# Altium schematic symbol library Connectors_Old.SchLib: 239 symbols (part 2 of 4)
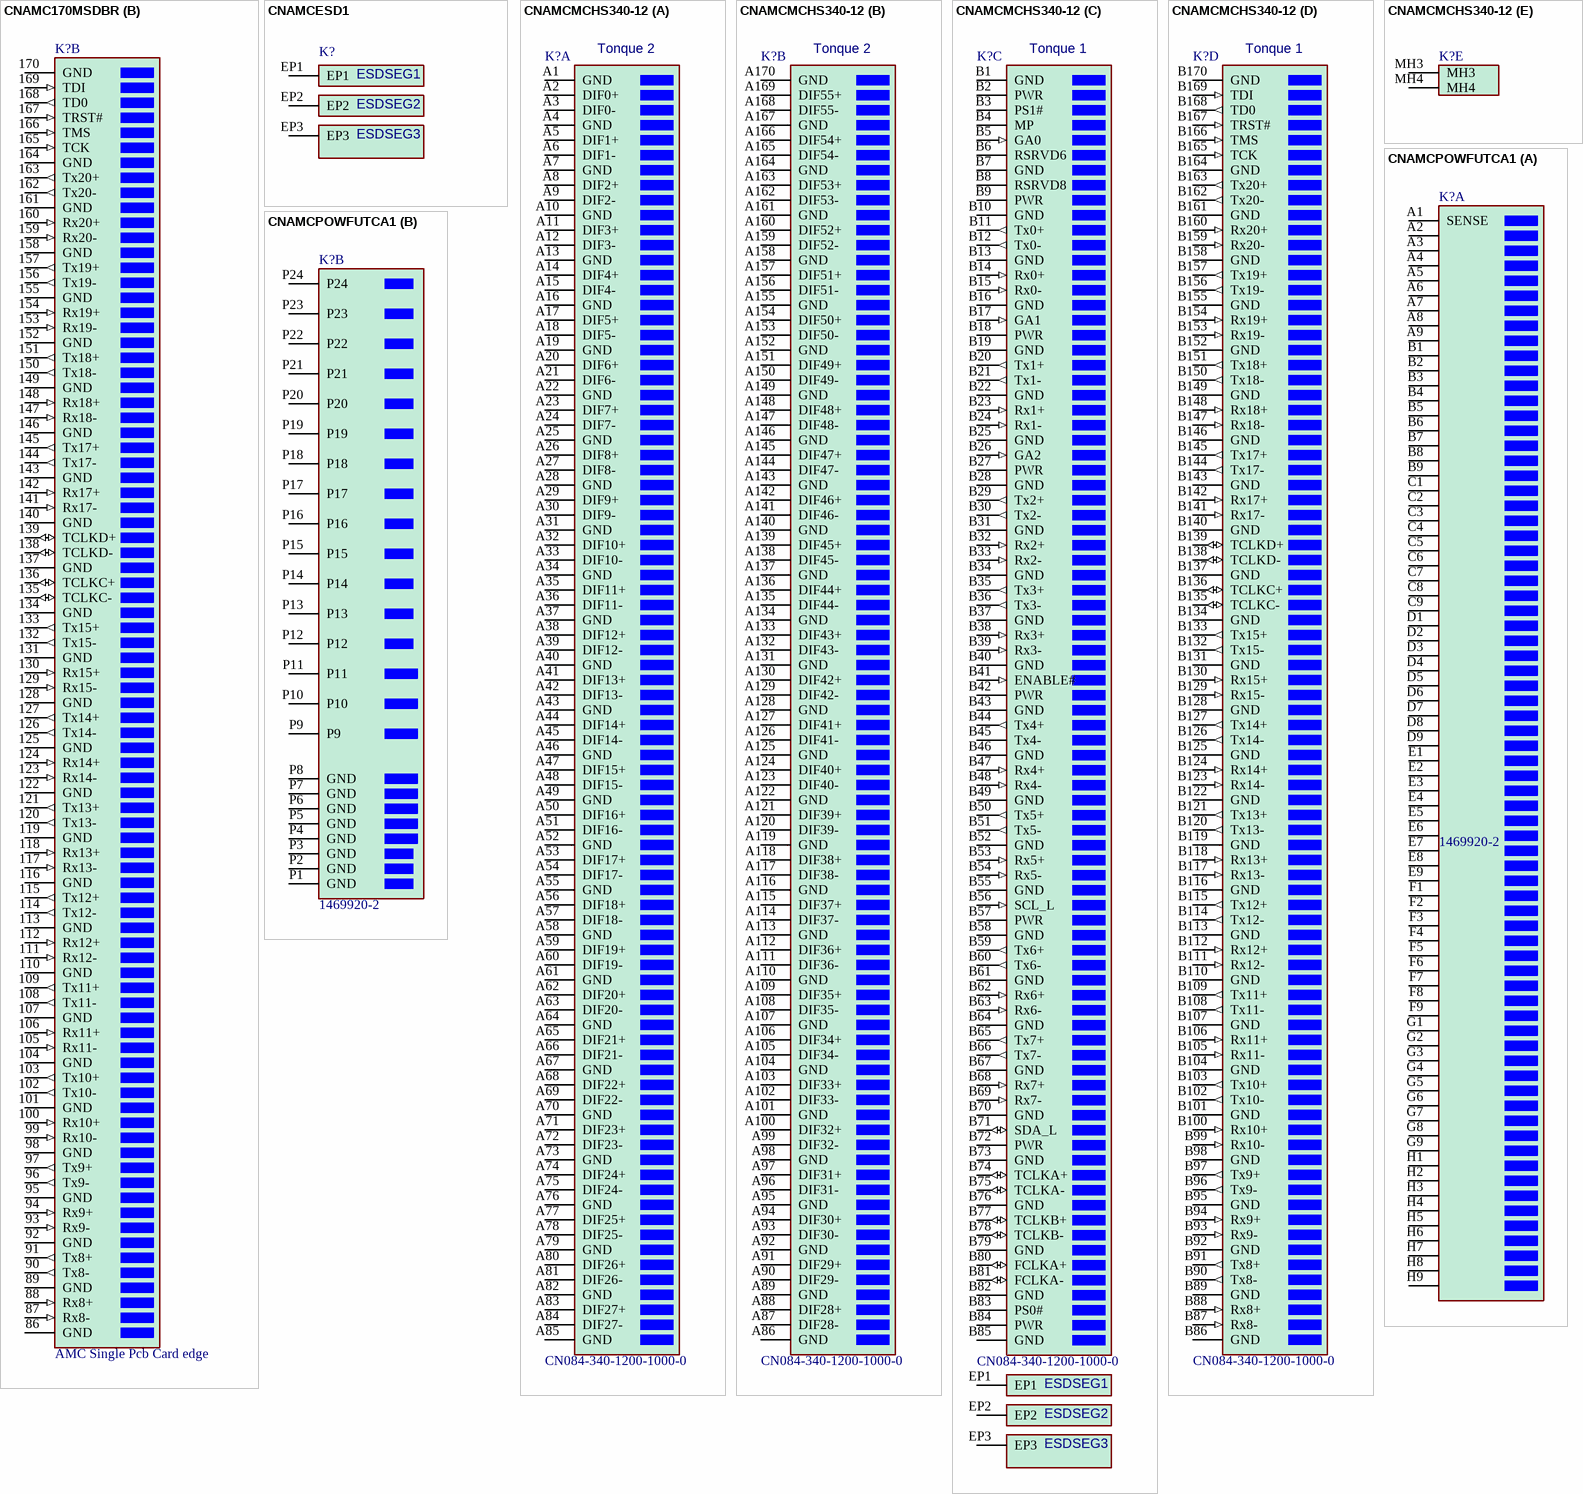
[diagram p17: symbols CNAMC170MSDBR to CNAMCPOWFUTCA1]

## CNAMC170MSDBR
designator K?, comment AMC Single Pcb Card edge  (no BOM)
AMC Daughter Board Reversed Single Card edge connector 170 pin; Price: 0
signal-integrity model Model Name (Model Description)
footprint CNAMCEDGES1DBR (AMC daughter board reversed single edge connector standard)
part A pins: 1 GND (power), 2 PWR (power) "12V", 3 PS1# "presence1", 4 MP (power) "3V3", 5 GA0 (in) "Gaddr0", 6 RSRVD6 "reserved", 7 GND (power), 8 RSRVD8 "reserved", 9 PWR (power) "12V", 10 GND (power), 11 Tx0+ (out) "out0", 12 Tx0- (out) "out0", 13 GND (power), 14 Rx0+ (in) "in0", 15 Rx0- (in) "in0", 16 GND (power), 17 GA1 (in) "Gaddr1", 18 PWR (power) "12V", 19 GND (power), 20 Tx1+ (out) "out1", 21 Tx1- (out) "out1", 22 GND (power), 23 Rx1+ (in) "in1", 24 Rx1- (in) "in1", 25 GND (power), 26 GA2 (in) "Gaddr2", 27 PWR (power) "12V", 28 GND (power), 29 Tx2+ (out) "out2", 30 Tx2- (out) "out2", 31 GND (power), 32 Rx2+ (in) "in2", 33 Rx2- (in) "in2", 34 GND (power), 35 Tx3+ (out) "out3", 36 Tx3- (out) "out3", 37 GND (power), 38 Rx3+ (in) "in3", 39 Rx3- (in) "in3", 40 GND (power), 41 ENABLE# (in) "AMC enable", 42 PWR (power) "12V", 43 GND (power), 44 Tx4+ (out) "out4", 45 T44- "out4", 46 GND (power), 47 Rx4+ (in) "in4", 48 Rx4- (in) "in4", 49 GND (power), 50 Tx5+ (out) "out5", 51 Tx5- (out) "out5", 52 GND (power), 53 Rx5+ (in) "in5", 54 Rx5- (in) "in5", 55 GND (power), 56 SCL_L (in) "IPMB clock", 57 PWR (power) "12V", 58 GND (power), 59 Tx6+ (out) "out6", 60 Tx6- (out) "out6", 61 GND (power), 62 Rx6+ (in) "in6", 63 Rx6- (in) "in6", 64 GND (power), 65 Tx7+ (out) "out7", 66 Tx7- (out) "out7", 67 GND (power), 68 Rx7+ (in) "in7", 69 Rx7- (in) "in7", 70 GND (power), 71 SDA_L (io) "IPMB data", 72 PWR (power) "12V", 73 GND (power), 74 TCLKA+ (io) "clk", 75 TCLKA- (io) "clk", 76 GND (power), 77 TCLKB+ (io) "clk", 78 TCLKB- (io) "clk", 79 GND (power), 80 FCLKA+ (io) "clk", 81 FCLKA- (io) "clk", 82 GND (power), 83 PS0# "presence0", 84 PWR (power) "12V", 85 GND (power), EP1, EP2, EP3
part B pins: 86 GND (power), 87 Rx8- (in) "in8", 88 Rx8+ (in) "in8", 89 GND (power), 90 Tx8- (out) "out8", 91 Tx8+ (out) "out8", 92 GND (power), 93 Rx9- (in) "in9", 94 Rx9+ (in) "in9", 95 GND (power), 96 Tx9- (out) "out9", 97 Tx9+ (out) "out9", 98 GND (power), 99 Rx10- (in) "in10", 100 Rx10+ (in) "in10", 101 GND (power), 102 Tx10- (out) "out10", 103 Tx10+ (out) "out10", 104 GND (power), 105 Rx11- (in) "in11", 106 Rx11+ (in) "in11", 107 GND (power), 108 Tx11- (out) "out11", 109 Tx11+ (out) "out11", 110 GND (power), 111 Rx12- (in) "in12", 112 Rx12+ (in) "in12", 113 GND (power), 114 Tx12- (out) "out12", 115 Tx12+ (out) "out12", 116 GND (power), 117 Rx13- (in) "in13", 118 Rx13+ (in) "in13", 119 GND (power), 120 Tx13- (out) "out13", 121 Tx13+ (out) "out13", 122 GND (power), 123 Rx14- (in) "in14", 124 Rx14+ (in) "in14", 125 GND (power), 126 Tx14- (out) "out14", 127 Tx14+ (out) "out14", 128 GND (power), 129 Rx15- (in) "in15", 130 Rx15+ (in) "in15", 131 GND (power), 132 Tx15- (out) "out15", 133 Tx15+ (out) "out15", 134 GND (power), 135 TCLKC- (io) "clk", 136 TCLKC+ (io) "clk", 137 GND (power), 138 TCLKD- (io) "clk", 139 TCLKD+ (io) "clk", 140 GND (power), 141 Rx17- (in) "in17", 142 Rx17+ (in) "in17", 143 GND (power), 144 Tx17- (out) "out17", 145 Tx17+ (out) "out17", 146 GND (power), 147 Rx18- (in) "in18", 148 Rx18+ (in) "in18", 149 GND (power), 150 Tx18- (out) "out18", 151 Tx18+ (out) "out18", 152 GND (power), 153 Rx19- (in) "in19", 154 Rx19+ (in) "in19", 155 GND (power), 156 Tx19- (out) "out19", 157 Tx19+ (out) "out19", 158 GND (power), 159 Rx20- (in) "in20", 160 Rx20+ (in) "in20", 161 GND (power), 162 Tx20- (out) "out20", 163 Tx20+ (out) "out20", 164 GND (power), 165 TCK (in) "in", 166 TMS (in) "in", 167 TRST# (in) "in", 168 TD0 (out) "out", 169 TDI (in) "in", 170 GND (power)
part A text: ESDSEG1; ESDSEG2; ESDSEG3

## CNAMCESD1
designator K?, comment ESD strip  (no BOM)
AMC Module ESD protection strip; Price: 0
signal-integrity model Model Name (Model Description)
footprint CNAMCESD1 (AMC ESD strip)
footprint CNAMCESDMCH1 (AMC ESD strip for MCH module)
pins: EP1, EP2, EP3, MH1 hidden
text: ESDSEG1; ESDSEG2; ESDSEG3

## CNAMCMCHS340-12
designator K?, comment CN084-340-1200-1000-0
AMC-MCH single card with plug connector 340 pin; Manufacturer: Yamaichi; Sort: 610; Tech: MECH; Manufacturer No: CN084-340-1200-1000-0; Package: Conn AMC MCH; Price: 0
signal-integrity model Model Name (Model Description)
footprint CNAMCMCHS1 (AMC single for MCH connector standard)
part A pins: A1 GND (power), A2 DIF0+, A3 DIF0-, A4 GND (power), A5 DIF1+, A6 DIF1-, A7 GND (power), A8 DIF2+, A9 DIF2-, A10 GND (power), A11 DIF3+, A12 DIF3-, A13 GND (power), A14 DIF4+, A15 DIF4-, A16 GND (power), A17 DIF5+, A18 DIF5-, A19 GND (power), A20 DIF6+, A21 DIF6-, A22 GND (power), A23 DIF7+, A24 DIF7-, A25 GND (power), A26 DIF8+, A27 DIF8-, A28 GND (power), A29 DIF9+, A30 DIF9-, A31 GND (power), A32 DIF10+, A33 DIF10-, A34 GND (power), A35 DIF11+, A36 DIF11-, A37 GND (power), A38 DIF12+, A39 DIF12-, A40 GND (power), A41 DIF13+, A42 DIF13-, A43 GND (power), A44 DIF14+, A45 DIF14-, A46 GND (power), A47 DIF15+, A48 DIF15-, A49 GND (power), A50 DIF16+, A51 DIF16-, A52 GND (power), A53 DIF17+, A54 DIF17-, A55 GND (power), A56 DIF18+, A57 DIF18-, A58 GND (power), A59 DIF19+, A60 DIF19-, A61 GND (power), A62 DIF20+, A63 DIF20-, A64 GND (power), A65 DIF21+, A66 DIF21-, A67 GND (power), A68 DIF22+, A69 DIF22-, A70 GND (power), A71 DIF23+, A72 DIF23-, A73 GND (power), A74 DIF24+, A75 DIF24-, A76 GND (power), A77 DIF25+, A78 DIF25-, A79 GND (power), A80 DIF26+, A81 DIF26-, A82 GND (power), A83 DIF27+, A84 DIF27-, A85 GND (power)
part B pins: A86 GND (power), A87 DIF28-, A88 DIF28+, A89 GND (power), A90 DIF29-, A91 DIF29+, A92 GND (power), A93 DIF30-, A94 DIF30+, A95 GND (power), A96 DIF31-, A97 DIF31+, A98 GND (power), A99 DIF32-, A100 DIF32+, A101 GND (power), A102 DIF33-, A103 DIF33+, A104 GND (power), A105 DIF34-, A106 DIF34+, A107 GND (power), A108 DIF35-, A109 DIF35+, A110 GND (power), A111 DIF36-, A112 DIF36+, A113 GND (power), A114 DIF37-, A115 DIF37+, A116 GND (power), A117 DIF38-, A118 DIF38+, A119 GND (power), A120 DIF39-, A121 DIF39+, A122 GND (power), A123 DIF40-, A124 DIF40+, A125 GND (power), A126 DIF41-, A127 DIF41+, A128 GND (power), A129 DIF42-, A130 DIF42+, A131 GND (power), A132 DIF43-, A133 DIF43+, A134 GND (power), A135 DIF44-, A136 DIF44+, A137 GND (power), A138 DIF45-, A139 DIF45+, A140 GND (power), A141 DIF46-, A142 DIF46+, A143 GND (power), A144 DIF47-, A145 DIF47+, A146 GND (power), A147 DIF48-, A148 DIF48+, A149 GND (power), A150 DIF49-, A151 DIF49+, A152 GND (power), A153 DIF50-, A154 DIF50+, A155 GND (power), A156 DIF51-, A157 DIF51+, A158 GND (power), A159 DIF52-, A160 DIF52+, A161 GND (power), A162 DIF53-, A163 DIF53+, A164 GND (power), A165 DIF54-, A166 DIF54+, A167 GND (power), A168 DIF55-, A169 DIF55+, A170 GND (power)
part C pins: B1 GND (power), B2 PWR (power) "12V", B3 PS1# "presence1", B4 MP (power) "3V3", B5 GA0 (in) "Gaddr0", B6 RSRVD6 "reserved", B7 GND (power), B8 RSRVD8 "reserved", B9 PWR (power) "12V", B10 GND (power), B11 Tx0+ (out) "out0", B12 Tx0- (out) "out0", B13 GND (power), B14 Rx0+ (in) "in0", B15 Rx0- (in) "in0", B16 GND (power), B17 GA1 (in) "Gaddr1", B18 PWR (power) "12V", B19 GND (power), B20 Tx1+ (out) "out1", B21 Tx1- (out) "out1", B22 GND (power), B23 Rx1+ (in) "in1", B24 Rx1- (in) "in1", B25 GND (power), B26 GA2 (in) "Gaddr2", B27 PWR (power) "12V", B28 GND (power), B29 Tx2+ (out) "out2", B30 Tx2- (out) "out2", B31 GND (power), B32 Rx2+ (in) "in2", B33 Rx2- (in) "in2", B34 GND (power), B35 Tx3+ (out) "out3", B36 Tx3- (out) "out3", B37 GND (power), B38 Rx3+ (in) "in3", B39 Rx3- (in) "in3", B40 GND (power), B41 ENABLE# (in) "AMC enable", B42 PWR (power) "12V", B43 GND (power), B44 Tx4+ (out) "out4", B45 Tx4- "out4", B46 GND (power), B47 Rx4+ (in) "in4", B48 Rx4- (in) "in4", B49 GND (power), B50 Tx5+ (out) "out5", B51 Tx5- (out) "out5", B52 GND (power), B53 Rx5+ (in) "in5", B54 Rx5- (in) "in5", B55 GND (power), B56 SCL_L (in) "IPMB clock", B57 PWR (power) "12V", B58 GND (power), B59 Tx6+ (out) "out6", B60 Tx6- (out) "out6", B61 GND (power), B62 Rx6+ (in) "in6", B63 Rx6- (in) "in6", B64 GND (power), B65 Tx7+ (out) "out7", B66 Tx7- (out) "out7", B67 GND (power), B68 Rx7+ (in) "in7", B69 Rx7- (in) "in7", B70 GND (power), B71 SDA_L (io) "IPMB data", B72 PWR (power) "12V", B73 GND (power), B74 TCLKA+ (io) "clk", B75 TCLKA- (io) "clk", B76 GND (power), B77 TCLKB+ (io) "clk", B78 TCLKB- (io) "clk", B79 GND (power), B80 FCLKA+ (io) "clk", B81 FCLKA- (io) "clk", B82 GND (power), B83 PS0# "presence0", B84 PWR (power) "12V", B85 GND (power), EP1, EP2, EP3
part D pins: B86 GND (power), B87 Rx8- (in) "in8", B88 Rx8+ (in) "in8", B89 GND (power), B90 Tx8- (out) "out8", B91 Tx8+ (out) "out8", B92 GND (power), B93 Rx9- (in) "in9", B94 Rx9+ (in) "in9", B95 GND (power), B96 Tx9- (out) "out9", B97 Tx9+ (out) "out9", B98 GND (power), B99 Rx10- (in) "in10", B100 Rx10+ (in) "in10", B101 GND (power), B102 Tx10- (out) "out10", B103 Tx10+ (out) "out10", B104 GND (power), B105 Rx11- (in) "in11", B106 Rx11+ (in) "in11", B107 GND (power), B108 Tx11- (out) "out11", B109 Tx11+ (out) "out11", B110 GND (power), B111 Rx12- (in) "in12", B112 Rx12+ (in) "in12", B113 GND (power), B114 Tx12- (out) "out12", B115 Tx12+ (out) "out12", B116 GND (power), B117 Rx13- (in) "in13", B118 Rx13+ (in) "in13", B119 GND (power), B120 Tx13- (out) "out13", B121 Tx13+ (out) "out13", B122 GND (power), B123 Rx14- (in) "in14", B124 Rx14+ (in) "in14", B125 GND (power), B126 Tx14- (out) "out14", B127 Tx14+ (out) "out14", B128 GND (power), B129 Rx15- (in) "in15", B130 Rx15+ (in) "in15", B131 GND (power), B132 Tx15- (out) "out15", B133 Tx15+ (out) "out15", B134 GND (power), B135 TCLKC- (io) "clk", B136 TCLKC+ (io) "clk", B137 GND (power), B138 TCLKD- (io) "clk", B139 TCLKD+ (io) "clk", B140 GND (power), B141 Rx17- (in) "in17", B142 Rx17+ (in) "in17", B143 GND (power), B144 Tx17- (out) "out17", B145 Tx17+ (out) "out17", B146 GND (power), B147 Rx18- (in) "in18", B148 Rx18+ (in) "in18", B149 GND (power), B150 Tx18- (out) "out18", B151 Tx18+ (out) "out18", B152 GND (power), B153 Rx19- (in) "in19", B154 Rx19+ (in) "in19", B155 GND (power), B156 Tx19- (out) "out19", B157 Tx19+ (out) "out19", B158 GND (power), B159 Rx20- (in) "in20", B160 Rx20+ (in) "in20", B161 GND (power), B162 Tx20- (out) "out20", B163 Tx20+ (out) "out20", B164 GND (power), B165 TCK (in) "in", B166 TMS (in) "in", B167 TRST# (in) "in", B168 TD0 (out) "out", B169 TDI (in) "in", B170 GND (power)
part E pins: MH3, MH4
part A text: Tonque 2
part B text: Tonque 2
part C text: Tonque 1; ESDSEG1; ESDSEG2; ESDSEG3
part D text: Tonque 1

## CNAMCPOWFUTCA1
designator K?, comment 1469920-2
AMC uTCA power connector for backplane; Manufacturer: Tyco, Farnell; Manufacturer No: 1469920-2, 1375136; Comment2: 24power pin, 72signal pin; Sort: 610; Tech: PFIT; Package: Conn. Power UTCA; Price: 12
signal-integrity model Model Name (Model Description)
footprint CNUTCAPOWF1 (uTCA Power connector female for backplane)
part A pins: A1 SENSE, A2, A3, A4, A5, A6, A7, A8, A9, B1, B2, B3, B4 (power), B5, B6, B7 (power), B8, B9, C1 (power), C2, C3, C4 (power), C5, C6, C7 (power), C8, C9, D1, D2, D3, D4, D5, D6, D7, D8, D9, E1, E2, E3, E4, E5, E6, E7, E8, E9, F1, F2, F3, F4, F5, F6, F7, F8, F9, G1, G2, G3, G4, G5, G6, G7, G8, G9, H1, H2, H3, H4, H5, H6, H7, H8, H9
part B pins: P1 GND (power), P2 GND (power), P3 GND (power), P4 GND (power), P5 GND (power), P6 GND (power), P7 GND (power), P8 GND (power), P9 (power), P10 (power), P11 (power), P12 (power), P13 (power), P14 (power), P15 (power), P16 (power), P17 (power), P18 (power), P19 (power), P20 (power), P21 (power), P22 (power), P23 (power), P24 (power)

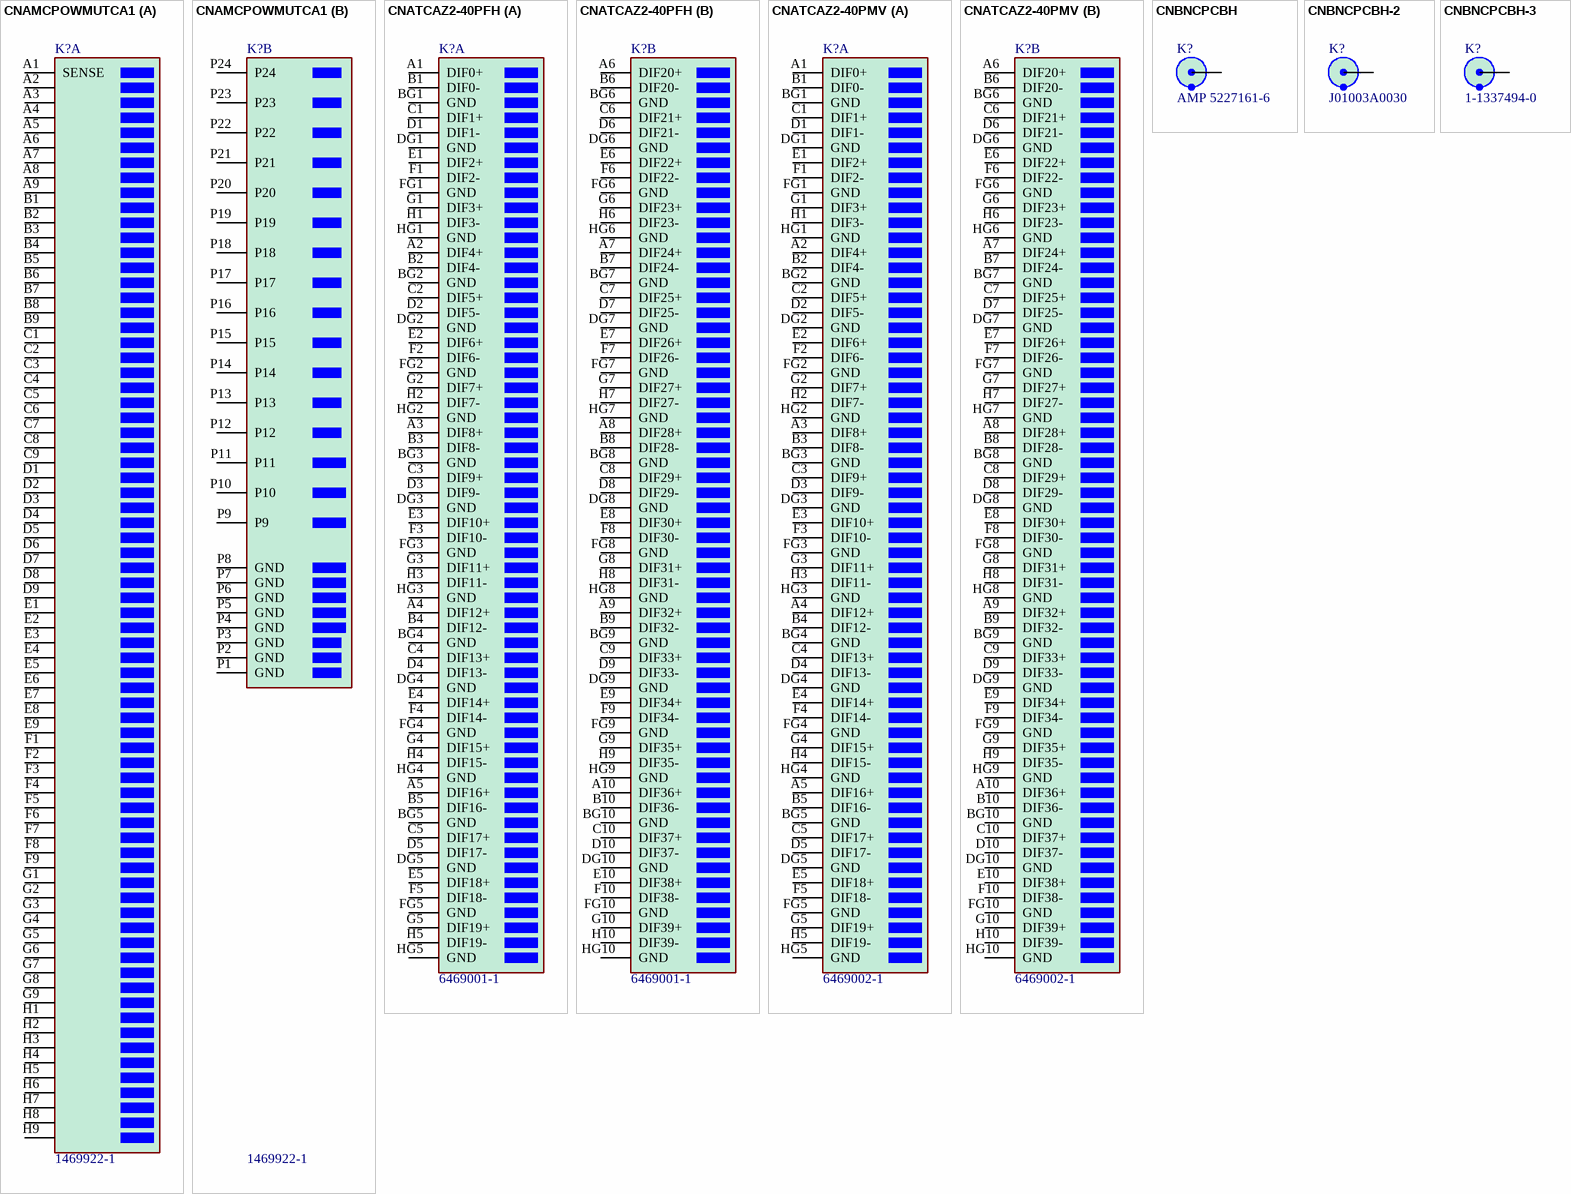
[diagram p7: symbols CNAMCPOWMUTCA1 to CNBNCPCBH-3]

## CNAMCPOWMUTCA1
designator K?, comment 1469922-1
AMC uTCA power connector for daughterboard; Manufacturer: Tyco, Farnell; Manufacturer No: 1469922-1, 1527882; Comment2: 24power pin, 72signal pin; Sort: 610; Tech: PFIT; Package: Conn Power UTCA; Price: 15
signal-integrity model Model Name (Model Description)
footprint CNUTCAPOWM1 (uTCA Power connector male for board)
part A pins: A1 SENSE, A2, A3, A4, A5, A6, A7, A8, A9, B1, B2, B3, B4, B5, B6, B7, B8, B9, C1, C2, C3, C4, C5, C6, C7, C8, C9, D1, D2, D3, D4, D5, D6, D7, D8, D9, E1, E2, E3, E4, E5, E6, E7, E8, E9, F1, F2, F3, F4, F5, F6, F7, F8, F9, G1, G2, G3, G4, G5, G6, G7, G8, G9, H1, H2, H3, H4, H5, H6, H7, H8, H9
part B pins: P1 GND (power), P2 GND (power), P3 GND (power), P4 GND (power), P5 GND (power), P6 GND (power), P7 GND (power), P8 GND (power), P9 (power), P10 (power), P11 (power), P12 (power), P13 (power), P14 (power), P15 (power), P16 (power), P17 (power), P18 (power), P19 (power), P20 (power), P21 (power), P22 (power), P23 (power), P24 (power)

## CNATCAZ2-40PFH
designator K?, comment 6469001-1
HM-Zd female horizontal 40 shielded pairs R2.5mm; Manufacturer: Tyco, Farnell; Manufacturer No: 6469001-1, 9636714; Sort: 610; Tech: PFIT; Package: Conn. 40pairs PF; Price: 0
signal-integrity model Model Name (Model Description)
footprint CNATCAZ2-40F (ATCA Zone 2 40 shielded pairs female horizontal daughterboard)
part A pins: A1 DIF0+, A2 DIF4+, A3 DIF8+, A4 DIF12+, A5 DIF16+, B1 DIF0-, B2 DIF4-, B3 DIF8-, B4 DIF12-, B5 DIF16-, BG1 GND (power), BG2 GND (power), BG3 GND (power), BG4 GND (power), BG5 GND (power), C1 DIF1+, C2 DIF5+, C3 DIF9+, C4 DIF13+, C5 DIF17+, D1 DIF1-, D2 DIF5-, D3 DIF9-, D4 DIF13-, D5 DIF17-, DG1 GND (power), DG2 GND (power), DG3 GND (power), DG4 GND (power), DG5 GND (power), E1 DIF2+, E2 DIF6+, E3 DIF10+, E4 DIF14+, E5 DIF18+, F1 DIF2-, F2 DIF6-, F3 DIF10-, F4 DIF14-, F5 DIF18-, FG1 GND (power), FG2 GND (power), FG3 GND (power), FG4 GND (power), FG5 GND (power), G1 DIF3+, G2 DIF7+, G3 DIF11+, G4 DIF15+, G5 DIF19+, H1 DIF3-, H2 DIF7-, H3 DIF11-, H4 DIF15-, H5 DIF19-, HG1 GND (power), HG2 GND (power), HG3 GND (power), HG4 GND (power), HG5 GND (power)
part B pins: A6 DIF20+, A7 DIF24+, A8 DIF28+, A9 DIF32+, A10 DIF36+, B6 DIF20-, B7 DIF24-, B8 DIF28-, B9 DIF32-, B10 DIF36-, BG6 GND (power), BG7 GND (power), BG8 GND (power), BG9 GND (power), BG10 GND (power), C6 DIF21+, C7 DIF25+, C8 DIF29+, C9 DIF33+, C10 DIF37+, D6 DIF21-, D7 DIF25-, D8 DIF29-, D9 DIF33-, D10 DIF37-, DG6 GND (power), DG7 GND (power), DG8 GND (power), DG9 GND (power), DG10 GND (power), E6 DIF22+, E7 DIF26+, E8 DIF30+, E9 DIF34+, E10 DIF38+, F6 DIF22-, F7 DIF26-, F8 DIF30-, F9 DIF34-, F10 DIF38-, FG6 GND (power), FG7 GND (power), FG8 GND (power), FG9 GND (power), FG10 GND (power), G6 DIF23+, G7 DIF27+, G8 DIF31+, G9 DIF35+, G10 DIF39+, H6 DIF23-, H7 DIF27-, H8 DIF31-, H9 DIF35-, H10 DIF39-, HG6 GND (power), HG7 GND (power), HG8 GND (power), HG9 GND (power), HG10 GND (power)

## CNATCAZ2-40PMV
designator K?, comment 6469002-1
HM-Zd male vertical 40 shielded pairs R2.5mm; Manufacturer: Tyco, Farnell; Manufacturer No: 6469002-1, 9636730; Sort: 610; Tech: PFIT; Package: Conn. 40pairs PF; Price: 0
signal-integrity model Model Name (Model Description)
footprint CNATCAZ2-40M (ATCA Zone 2 40 shielded pairs male vertical backplane)
part A pins: A1 DIF0+, A2 DIF4+, A3 DIF8+, A4 DIF12+, A5 DIF16+, B1 DIF0-, B2 DIF4-, B3 DIF8-, B4 DIF12-, B5 DIF16-, BG1 GND (power), BG2 GND (power), BG3 GND (power), BG4 GND (power), BG5 GND (power), C1 DIF1+, C2 DIF5+, C3 DIF9+, C4 DIF13+, C5 DIF17+, D1 DIF1-, D2 DIF5-, D3 DIF9-, D4 DIF13-, D5 DIF17-, DG1 GND (power), DG2 GND (power), DG3 GND (power), DG4 GND (power), DG5 GND (power), E1 DIF2+, E2 DIF6+, E3 DIF10+, E4 DIF14+, E5 DIF18+, F1 DIF2-, F2 DIF6-, F3 DIF10-, F4 DIF14-, F5 DIF18-, FG1 GND (power), FG2 GND (power), FG3 GND (power), FG4 GND (power), FG5 GND (power), G1 DIF3+, G2 DIF7+, G3 DIF11+, G4 DIF15+, G5 DIF19+, H1 DIF3-, H2 DIF7-, H3 DIF11-, H4 DIF15-, H5 DIF19-, HG1 GND (power), HG2 GND (power), HG3 GND (power), HG4 GND (power), HG5 GND (power)
part B pins: A6 DIF20+, A7 DIF24+, A8 DIF28+, A9 DIF32+, A10 DIF36+, B6 DIF20-, B7 DIF24-, B8 DIF28-, B9 DIF32-, B10 DIF36-, BG6 GND (power), BG7 GND (power), BG8 GND (power), BG9 GND (power), BG10 GND (power), C6 DIF21+, C7 DIF25+, C8 DIF29+, C9 DIF33+, C10 DIF37+, D6 DIF21-, D7 DIF25-, D8 DIF29-, D9 DIF33-, D10 DIF37-, DG6 GND (power), DG7 GND (power), DG8 GND (power), DG9 GND (power), DG10 GND (power), E6 DIF22+, E7 DIF26+, E8 DIF30+, E9 DIF34+, E10 DIF38+, F6 DIF22-, F7 DIF26-, F8 DIF30-, F9 DIF34-, F10 DIF38-, FG6 GND (power), FG7 GND (power), FG8 GND (power), FG9 GND (power), FG10 GND (power), G6 DIF23+, G7 DIF27+, G8 DIF31+, G9 DIF35+, G10 DIF39+, H6 DIF23-, H7 DIF27-, H8 DIF31-, H9 DIF35-, H10 DIF39-, HG6 GND (power), HG7 GND (power), HG8 GND (power), HG9 GND (power), HG10 GND (power)

## CNBNCPCBH
designator K?, comment AMP 5227161-6
BNC 90deg PCB; Manufacturer: Tyco AMP; Sort: 610; Tech: THDW; Manufacturer No: 5227161-6; Price: 0
signal-integrity model Model Name (Model Description)
footprint CNBNCPCBH1 (TYCO AMP BNC PCB horizontal)
pins: 1, 2 (in)

## CNBNCPCBH-2
designator K?, comment J01003A0030
BNC 90deg PCB; Manufacturer: Telegartner; Sort: 610; Tech: THDW; Manufacturer No: J01003A0030; Price: 0
signal-integrity model Model Name (Model Description)
footprint CNBNCPCBH2 (Telegartner BNC PCB horizontal J01003A0030)
pins: 1, 2 (in)

## CNBNCPCBH-3
designator K?, comment 1-1337494-0
BNC 90deg PCB; Manufacturer: Tyco, Farnell; Manufacturer No: 1-1337494-0, 1020958; Sort: 610; Tech: THDW; Package: CN BNC pcb horiz; Price: 0
signal-integrity model Model Name (Model Description)
footprint CNBNCPCBH3 (Telegartner BNC PCB horizontal J01003A0030)
pins: 1, 2 (in)

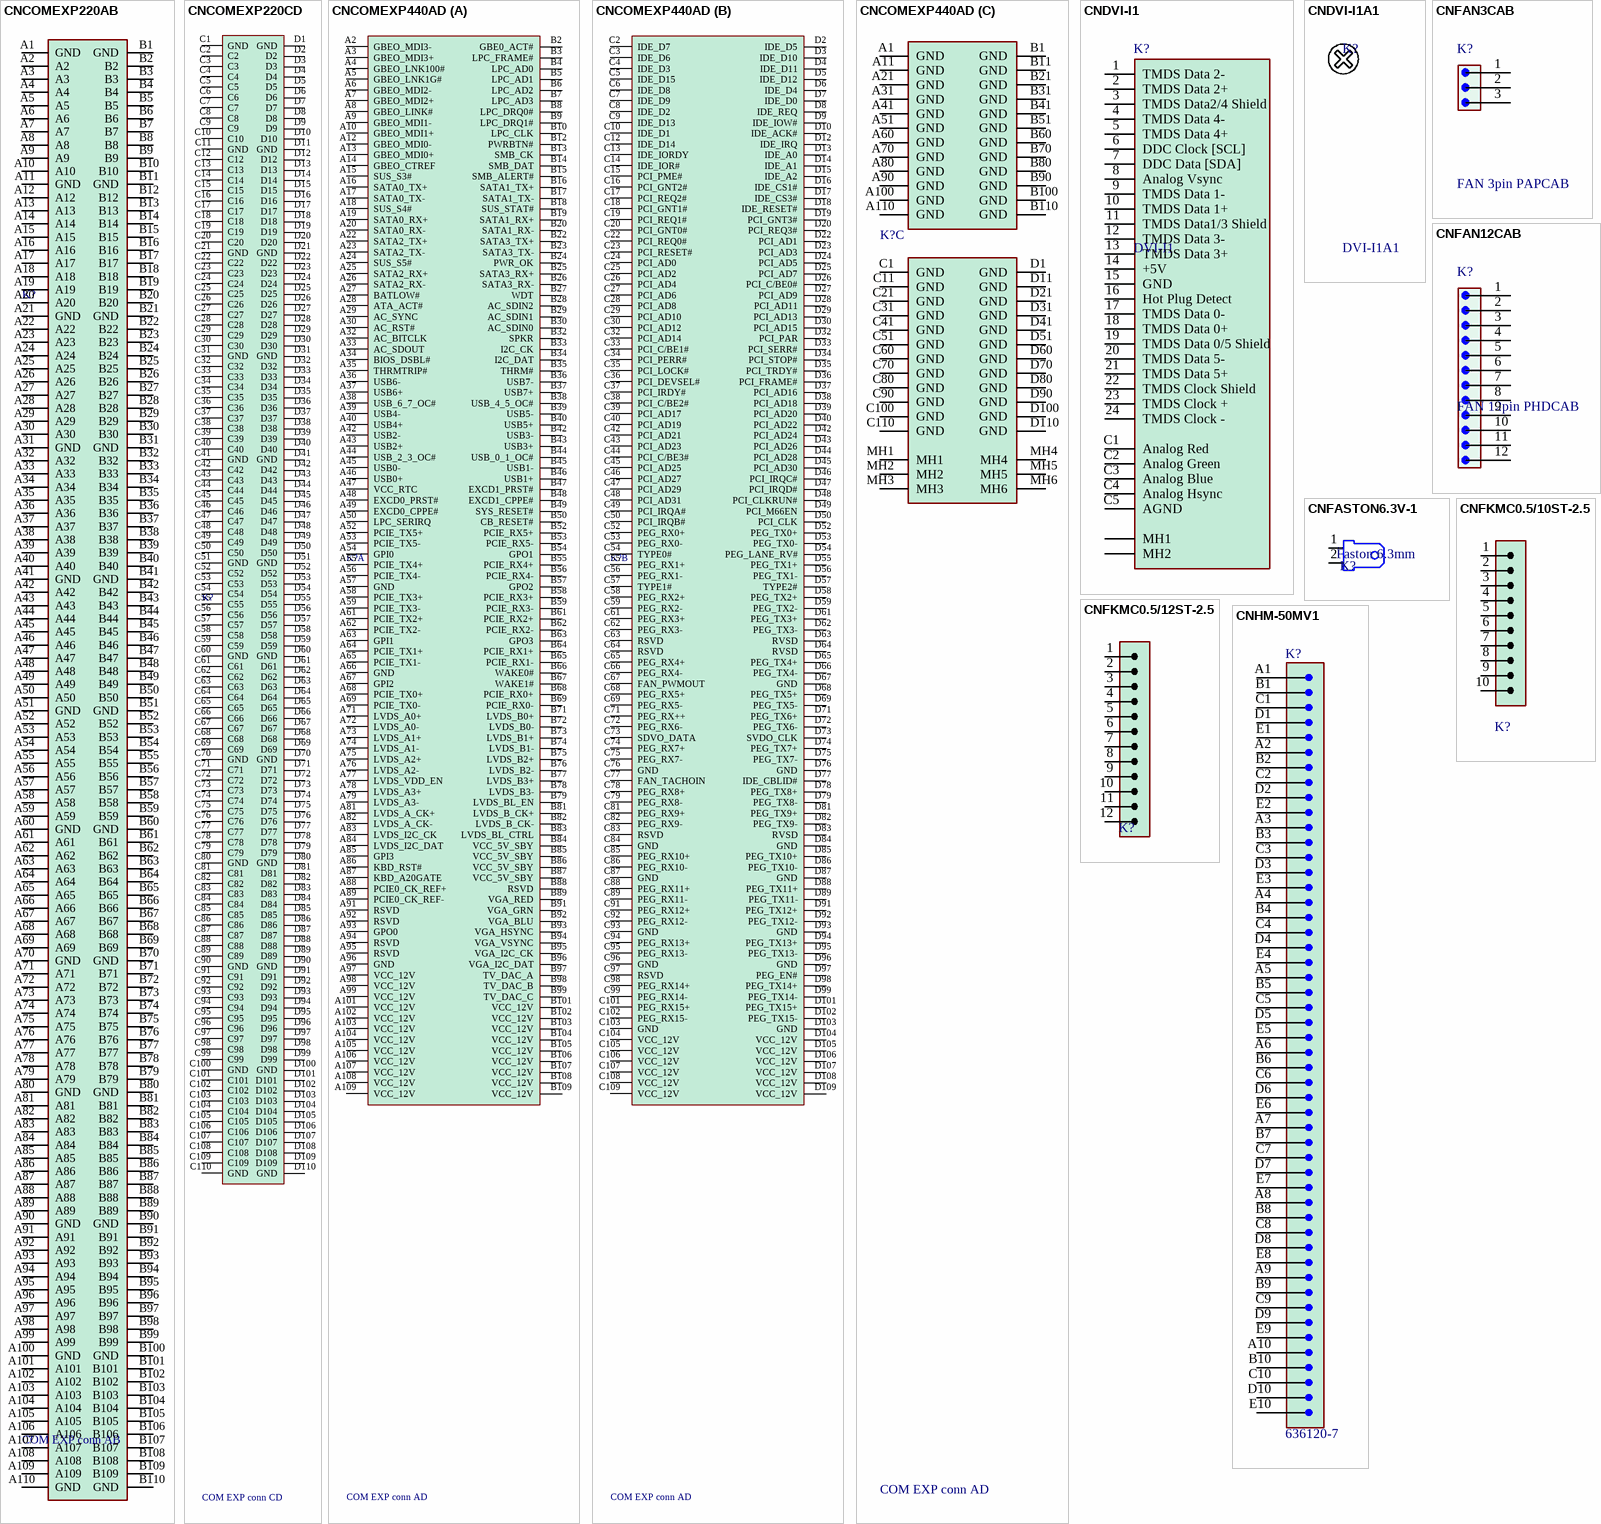
[diagram p8: symbols CNCOMEXP220AB to CNHM-50MV1]

## CNCOMEXP220AB
designator K?, comment COM EXP conn AB
COM express connector 220 pin AB; Manufacturer: Tyco; Manufacturer No: 3-1827253-6; Price: 0
signal-integrity model Model Name (Model Description)
pins: A1 GND, A2, A3, A4, A5, A6, A7, A8, A9, A10, A11 GND, A12, A13, A14, A15, A16, A17, A18, A19, A20, A21 GND, A22, A23, A24, A25, A26, A27, A28, A29, A30, A31 GND, A32, A33, A34, A35, A36, A37, A38, A39, A40, A41 GND, A42, A43, A44, A45, A46, A47, A48, A49, A50, A51 GND, A52, A53, A54, A55, A56, A57, A58, A59, A60 GND, A61, A62, A63, A64, A65, A66, A67, A68, A69, A70 GND, A71, A72, A73, A74, A75, A76, A77, A78, A79, A80 GND, A81, A82, A83, A84, A85, A86, A87, A88, A89, A90 GND, A91, A92, A93, A94, A95, A96, A97, A98, A99, A100 GND, A101, A102, A103, A104, A105, A106, A107, A108, A109, A110 GND, B1 GND, B2, B3, B4, B5, B6, B7, B8, B9, B10, B11 GND, B12, B13, B14, B15, B16, B17, B18, B19, B20, B21 GND, B22, B23, B24, B25, B26, B27, B28, B29, B30, B31 GND, B32, B33, B34, B35, B36, B37, B38, B39, B40, B41 GND, B42, B43, B44, B45, B46, B47, B48, B49, B50, B51 GND, B52, B53, B54, B55, B56, B57, B58, B59, B60 GND, B61, B62, B63, B64, B65, B66, B67, B68, B69, B70 GND, B71, B72, B73, B74, B75, B76, B77, B78, B79, B80 GND, B81, B82, B83, B84, B85, B86, B87, B88, B89, B90 GND, B91, B92, B93, B94, B95, B96, B97, B98, B99, B100 GND, B101, B102, B103, B104, B105, B106, B107, B108, B109, B110 GND

## CNCOMEXP220CD
designator K?, comment COM EXP conn CD
COM express connector 220 pin CD; Manufacturer: Tyco; Manufacturer No: 3-1827253-6; Price: 0
signal-integrity model Model Name (Model Description)
pins: C1 GND, C2, C3, C4, C5, C6, C7, C8, C9, C10, C11 GND, C12, C13, C14, C15, C16, C17, C18, C19, C20, C21 GND, C22, C23, C24, C25, C26, C27, C28, C29, C30, C31 GND, C32, C33, C34, C35, C36, C37, C38, C39, C40, C41 GND, C42, C43, C44, C45, C46, C47, C48, C49, C50, C51 GND, C52, C53, C54, C55, C56, C57, C58, C59, C60 GND, C61, C62, C63, C64, C65, C66, C67, C68, C69, C70 GND, C71, C72, C73, C74, C75, C76, C77, C78, C79, C80 GND, C81, C82, C83, C84, C85, C86, C87, C88, C89, C90 GND, C91, C92, C93, C94, C95, C96, C97, C98, C99, C100 GND, C101, C102, C103, C104, C105, C106, C107, C108, C109, C110 GND, D1 GND, D2, D3, D4, D5, D6, D7, D8, D9, D10, D11 GND, D12, D13, D14, D15, D16, D17, D18, D19, D20, D21 GND, D22, D23, D24, D25, D26, D27, D28, D29, D30, D31 GND, D32, D33, D34, D35, D36, D37, D38, D39, D40, D41 GND, D42, D43, D44, D45, D46, D47, D48, D49, D50, D51 GND, D52, D53, D54, D55, D56, D57, D58, D59, D60 GND, D61, D62, D63, D64, D65, D66, D67, D68, D69, D70 GND, D71, D72, D73, D74, D75, D76, D77, D78, D79, D80 GND, D81, D82, D83, D84, D85, D86, D87, D88, D89, D90 GND, D91, D92, D93, D94, D95, D96, D97, D98, D99, D100 GND, D101, D102, D103, D104, D105, D106, D107, D108, D109, D110 GND

## CNCOMEXP440AD
designator K?, comment COM EXP conn AD
COM express connector 2x 220 pin A-D Congatec; Manufacturer: Tyco; Manufacturer No: 3-5353652-6; Package: Conn dual 220pin; Price: 0
signal-integrity model Model Name (Model Description)
footprint CNCOMEXP4408MM (Connector Com Express 2x220pin R0.5mm 8mm height)
part A pins: A2 GBEO_MDI3-, A3 GBEO_MDI3+, A4 GBEO_LNK100#, A5 GBEO_LNK1G#, A6 GBEO_MDI2-, A7 GBEO_MDI2+, A8 GBEO_LINK#, A9 GBEO_MDI1-, A10 GBEO_MDI1+, A12 GBEO_MDI0-, A13 GBEO_MDI0+, A14 GBEO_CTREF, A15 SUS_S3#, A16 SATA0_TX+, A17 SATA0_TX-, A18 SUS_S4#, A19 SATA0_RX+, A20 SATA0_RX-, A22 SATA2_TX+, A23 SATA2_TX-, A24 SUS_S5#, A25 SATA2_RX+, A26 SATA2_RX-, A27 BATLOW#, A28 ATA_ACT#, A29 AC_SYNC, A30 AC_RST#, A32 AC_BITCLK, A33 AC_SDOUT, A34 BIOS_DSBL#, A35 THRMTRIP#, A36 USB6-, A37 USB6+, A38 USB_6_7_OC#, A39 USB4-, A40 USB4+, A42 USB2-, A43 USB2+, A44 USB_2_3_OC#, A45 USB0-, A46 USB0+, A47 VCC_RTC, A48 EXCD0_PRST#, A49 EXCD0_CPPE#, A50 LPC_SERIRQ, A52 PCIE_TX5+, A53 PCIE_TX5-, A54 GPI0, A55 PCIE_TX4+, A56 PCIE_TX4-, A57 GND, A58 PCIE_TX3+, A59 PCIE_TX3-, A61 PCIE_TX2+, A62 PCIE_TX2-, A63 GPI1, A64 PCIE_TX1+, A65 PCIE_TX1-, A66 GND, A67 GPI2, A68 PCIE_TX0+, A69 PCIE_TX0-, A71 LVDS_A0+, A72 LVDS_A0-, A73 LVDS_A1+, A74 LVDS_A1-, A75 LVDS_A2+, A76 LVDS_A2-, A77 LVDS_VDD_EN, A78 LVDS_A3+, A79 LVDS_A3-, A81 LVDS_A_CK+, A82 LVDS_A_CK-, A83 LVDS_I2C_CK, A84 LVDS_I2C_DAT, A85 GPI3, A86 KBD_RST#, A87 KBD_A20GATE, A88 PCIE0_CK_REF+, A89 PCIE0_CK_REF-, A91 RSVD, A92 RSVD, A93 GPO0, A94 RSVD, A95 RSVD, A96 GND, A97 VCC_12V, A98 VCC_12V, A99 VCC_12V, A101 VCC_12V, A102 VCC_12V, A103 VCC_12V, A104 VCC_12V, A105 VCC_12V, A106 VCC_12V, A107 VCC_12V, A108 VCC_12V, A109 VCC_12V, B2 GBE0_ACT#, B3 LPC_FRAME#, B4 LPC_AD0, B5 LPC_AD1, B6 LPC_AD2, B7 LPC_AD3, B8 LPC_DRQ0#, B9 LPC_DRQ1#, B10 LPC_CLK, B12 PWRBTN#, B13 SMB_CK, B14 SMB_DAT, B15 SMB_ALERT#, B16 SATA1_TX+, B17 SATA1_TX-, B18 SUS_STAT#, B19 SATA1_RX+, B20 SATA1_RX-, B22 SATA3_TX+, B23 SATA3_TX-, B24 PWR_OK, B25 SATA3_RX+, B26 SATA3_RX-, B27 WDT, B28 AC_SDIN2, B29 AC_SDIN1, B30 AC_SDIN0, B32 SPKR, B33 I2C_CK, B34 I2C_DAT, B35 THRM#, B36 USB7-, B37 USB7+, B38 USB_4_5_OC#, B39 USB5-, B40 USB5+, B42 USB3-, B43 USB3+, B44 USB_0_1_OC#, B45 USB1-, B46 USB1+, B47 EXCD1_PRST#, B48 EXCD1_CPPE#, B49 SYS_RESET#, B50 CB_RESET#, B52 PCIE_RX5+, B53 PCIE_RX5-, B54 GPO1, B55 PCIE_RX4+, B56 PCIE_RX4-, B57 GPO2, B58 PCIE_RX3+, B59 PCIE_RX3-, B61 PCIE_RX2+, B62 PCIE_RX2-, B63 GPO3, B64 PCIE_RX1+, B65 PCIE_RX1-, B66 WAKE0#, B67 WAKE1#, B68 PCIE_RX0+, B69 PCIE_RX0-, B71 LVDS_B0+, B72 LVDS_B0-, B73 LVDS_B1+, B74 LVDS_B1-, B75 LVDS_B2+, B76 LVDS_B2-, B77 LVDS_B3+, B78 LVDS_B3-, B79 LVDS_BL_EN, B81 LVDS_B_CK+, B82 LVDS_B_CK-, B83 LVDS_BL_CTRL, B84 VCC_5V_SBY, B85 VCC_5V_SBY, B86 VCC_5V_SBY, B87 VCC_5V_SBY, B88 RSVD, B89 VGA_RED, B91 VGA_GRN, B92 VGA_BLU, B93 VGA_HSYNC, B94 VGA_VSYNC, B95 VGA_I2C_CK, B96 VGA_I2C_DAT, B97 TV_DAC_A, B98 TV_DAC_B, B99 TV_DAC_C, B101 VCC_12V, B102 VCC_12V, B103 VCC_12V, B104 VCC_12V, B105 VCC_12V, B106 VCC_12V, B107 VCC_12V, B108 VCC_12V, B109 VCC_12V
part B pins: C2 IDE_D7, C3 IDE_D6, C4 IDE_D3, C5 IDE_D15, C6 IDE_D8, C7 IDE_D9, C8 IDE_D2, C9 IDE_D13, C10 IDE_D1, C12 IDE_D14, C13 IDE_IORDY, C14 IDE_IOR#, C15 PCI_PME#, C16 PCI_GNT2#, C17 PCI_REQ2#, C18 PCI_GNT1#, C19 PCI_REQ1#, C20 PCI_GNT0#, C22 PCI_REQ0#, C23 PCI_RESET#, C24 PCI_AD0, C25 PCI_AD2, C26 PCI_AD4, C27 PCI_AD6, C28 PCI_AD8, C29 PCI_AD10, C30 PCI_AD12, C32 PCI_AD14, C33 PCI_C/BE1#, C34 PCI_PERR#, C35 PCI_LOCK#, C36 PCI_DEVSEL#, C37 PCI_IRDY#, C38 PCI_C/BE2#, C39 PCI_AD17, C40 PCI_AD19, C42 PCI_AD21, C43 PCI_AD23, C44 PCI_C/BE3#, C45 PCI_AD25, C46 PCI_AD27, C47 PCI_AD29, C48 PCI_AD31, C49 PCI_IRQA#, C50 PCI_IRQB#, C52 PEG_RX0+, C53 PEG_RX0-, C54 TYPE0#, C55 PEG_RX1+, C56 PEG_RX1-, C57 TYPE1#, C58 PEG_RX2+, C59 PEG_RX2-, C61 PEG_RX3+, C62 PEG_RX3-, C63 RSVD, C64 RSVD, C65 PEG_RX4+, C66 PEG_RX4-, C67 FAN_PWMOUT, C68 PEG_RX5+, C69 PEG_RX5-, C71 PEG_RX++, C72 PEG_RX6-, C73 SDVO_DATA, C74 PEG_RX7+, C75 PEG_RX7-, C76 GND, C77 FAN_TACHOIN, C78 PEG_RX8+, C79 PEG_RX8-, C81 PEG_RX9+, C82 PEG_RX9-, C83 RSVD, C84 GND, C85 PEG_RX10+, C86 PEG_RX10-, C87 GND, C88 PEG_RX11+, C89 PEG_RX11-, C91 PEG_RX12+, C92 PEG_RX12-, C93 GND, C94 PEG_RX13+, C95 PEG_RX13-, C96 GND, C97 RSVD, C98 PEG_RX14+, C99 PEG_RX14-, C101 PEG_RX15+, C102 PEG_RX15-, C103 GND, C104 VCC_12V, C105 VCC_12V, C106 VCC_12V, C107 VCC_12V, C108 VCC_12V, C109 VCC_12V, D2 IDE_D5, D3 IDE_D10, D4 IDE_D11, D5 IDE_D12, D6 IDE_D4, D7 IDE_D0, D8 IDE_REQ, D9 IDE_IOW#, D10 IDE_ACK#, D12 IDE_IRQ, D13 IDE_A0, D14 IDE_A1, D15 IDE_A2, D16 IDE_CS1#, D17 IDE_CS3#, D18 IDE_RESET#, D19 PCI_GNT3#, D20 PCI_REQ3#, D22 PCI_AD1, D23 PCI_AD3, D24 PCI_AD5, D25 PCI_AD7, D26 PCI_C/BE0#, D27 PCI_AD9, D28 PCI_AD11, D29 PCI_AD13, D30 PCI_AD15, D32 PCI_PAR, D33 PCI_SERR#, D34 PCI_STOP#, D35 PCI_TRDY#, D36 PCI_FRAME#, D37 PCI_AD16, D38 PCI_AD18, D39 PCI_AD20, D40 PCI_AD22, D42 PCI_AD24, D43 PCI_AD26, D44 PCI_AD28, D45 PCI_AD30, D46 PCI_IRQC#, D47 PCI_IRQD#, D48 PCI_CLKRUN#, D49 PCI_M66EN, D50 PCI_CLK, D52 PEG_TX0+, D53 PEG_TX0-, D54 PEG_LANE_RV#, D55 PEG_TX1+, D56 PEG_TX1-, D57 TYPE2#, D58 PEG_TX2+, D59 PEG_TX2-, D61 PEG_TX3+, D62 PEG_TX3-, D63 RVSD, D64 RVSD, D65 PEG_TX4+, D66 PEG_TX4-, D67 GND, D68 PEG_TX5+, D69 PEG_TX5-, D71 PEG_TX6+, D72 PEG_TX6-, D73 SVDO_CLK, D74 PEG_TX7+, D75 PEG_TX7-, D76 GND, D77 IDE_CBLID#, D78 PEG_TX8+, D79 PEG_TX8-, D81 PEG_TX9+, D82 PEG_TX9-, D83 RVSD, D84 GND, D85 PEG_TX10+, D86 PEG_TX10-, D87 GND, D88 PEG_TX11+, D89 PEG_TX11-, D91 PEG_TX12+, D92 PEG_TX12-, D93 GND, D94 PEG_TX13+, D95 PEG_TX13-, D96 GND, D97 PEG_EN#, D98 PEG_TX14+, D99 PEG_TX14-, D101 PEG_TX15+, D102 PEG_TX15-, D103 GND, D104 VCC_12V, D105 VCC_12V, D106 VCC_12V, D107 VCC_12V, D108 VCC_12V, D109 VCC_12V
part C pins: A1 GND, A11 GND, A21 GND, A31 GND, A41 GND, A51 GND, A60 GND, A70 GND, A80 GND, A90 GND, A100 GND, A110 GND, B1 GND, B11 GND, B21 GND, B31 GND, B41 GND, B51 GND, B60 GND, B70 GND, B80 GND, B90 GND, B100 GND, B110 GND, C1 GND, C11 GND, C21 GND, C31 GND, C41 GND, C51 GND, C60 GND, C70 GND, C80 GND, C90 GND, C100 GND, C110 GND, D1 GND, D11 GND, D21 GND, D31 GND, D41 GND, D51 GND, D60 GND, D70 GND, D80 GND, D90 GND, D100 GND, D110 GND, MH1, MH2, MH3, MH4, MH5, MH6

## CNDVI-I1
designator K?, comment DVI-I1
DVI-I Analog Digital connector R1.91 29pin; Manufacturer: Molex; Manufacturer No: 74320-1003; Comment2: Analog, Digital Dual link; Sort: 610; Tech: THDW; Price: 0
footprint CNDVI-I1 (DVI-I Analog & Dual link Digital connector R1.91)
pins: 1 TMDS Data 2-, 2 TMDS Data 2+, 3 TMDS Data2/4 Shield, 4 TMDS Data 4-, 5 TMDS Data 4+, 6 DDC Clock [SCL], 7 DDC Data [SDA], 8 Analog Vsync, 9 TMDS Data 1-, 10 TMDS Data 1+, 11 TMDS Data1/3 Shield, 12 TMDS Data 3-, 13 TMDS Data 3+, 14 +5V (power), 15 GND (power), 16 Hot Plug Detect, 17 TMDS Data 0-, 18 TMDS Data 0+, 19 TMDS Data 0/5 Shield, 20 TMDS Data 5-, 21 TMDS Data 5+, 22 TMDS Clock Shield, 23 TMDS Clock +, 24 TMDS Clock -, C1 Analog Red, C2 Analog Green, C3 Analog Blue, C4 Analog Hsync, C5 AGND (power), MH1, MH2

## CNDVI-I1A1
designator K?, comment DVI-I1A1
Screws for DVI-I Analog Digital connector R1.91 29pin; Manufacturer: Molex; Manufacturer No: 71781-0001, 71781-0002; Comment2: Screws for DVI-I connector; Sort: 610; Tech: THDW; Price: 0

## CNFAN3CAB
designator K?, comment FAN 3pin PAPCAB
Cable PAP Connector Female 3pin grid 2.0mm; Manufacturer: JST; Manufacturer No: PAP-03V-S; Sort: 610; Price: 0
signal-integrity model Model Name (Model Description)
pins: 1, 2, 3

## CNFAN12CAB
designator K?, comment FAN 12pin PHDCAB
Cable PHD Connector Female 12 pin grid 2.0mm; Manufacturer: JST; Manufacturer No: PHDR-12VS; Sort: 610; Price: 0
signal-integrity model Model Name (Model Description)
pins: 1, 2, 3, 4, 5, 6, 7, 8, 9, 10, 11, 12

## CNFASTON6.3V-1
designator K?, comment Faston 6.3mm
Faston 6.3x0.8mm vertical PCB; Sort: 610; Tech: THDW; Package: Faston 6.3 vert; Price: 0
footprint CNFASTON6.3V1 (Faston 6.3mm vertical)
pins: 1, 2

## CNFKMC0.5/10ST-2.5
designator K?, comment FKMC0.5/10-ST-2.5  (value not drawn)  (net tie)
Combicon plug 10 pin R2.5mm; Manufacturer: PhoenixContact, Farnell; Manufacturer No: 1881406,; Sort: 610; Tech: THDW; Price: 0
pins: 1, 2, 3, 4, 5, 6, 7, 8, 9, 10

## CNFKMC0.5/12ST-2.5
designator K?, comment FKMC0.5/12-ST-2.5  (value not drawn)  (net tie)
Combicon plug 12 pin R2.5mm; Manufacturer: PhoenixContact, Farnell; Manufacturer No: 1881422,; Sort: 610; Tech: THDW; Price: 0
pins: 1, 2, 3, 4, 5, 6, 7, 8, 9, 10, 11, 12

## CNHM-50MV1
designator K?, comment 636120-7
HM male vertical 50 pin unshielded 2mm; Manufacturer: Tyco; Sort: 610; Tech: PFIT; Manufacturer No: 636120-7; Price: 0
signal-integrity model Model Name (Model Description)
footprint CNHM50MV1 (HM connector R 2mm 50pin for backplane vertical male)
pins: A1, A2, A3, A4, A5, A6, A7, A8, A9, A10, B1, B2, B3, B4, B5, B6, B7, B8, B9, B10, C1, C2, C3, C4, C5, C6, C7, C8, C9, C10, D1, D2, D3, D4, D5, D6, D7, D8, D9, D10, E1, E2, E3, E4, E5, E6, E7, E8, E9, E10

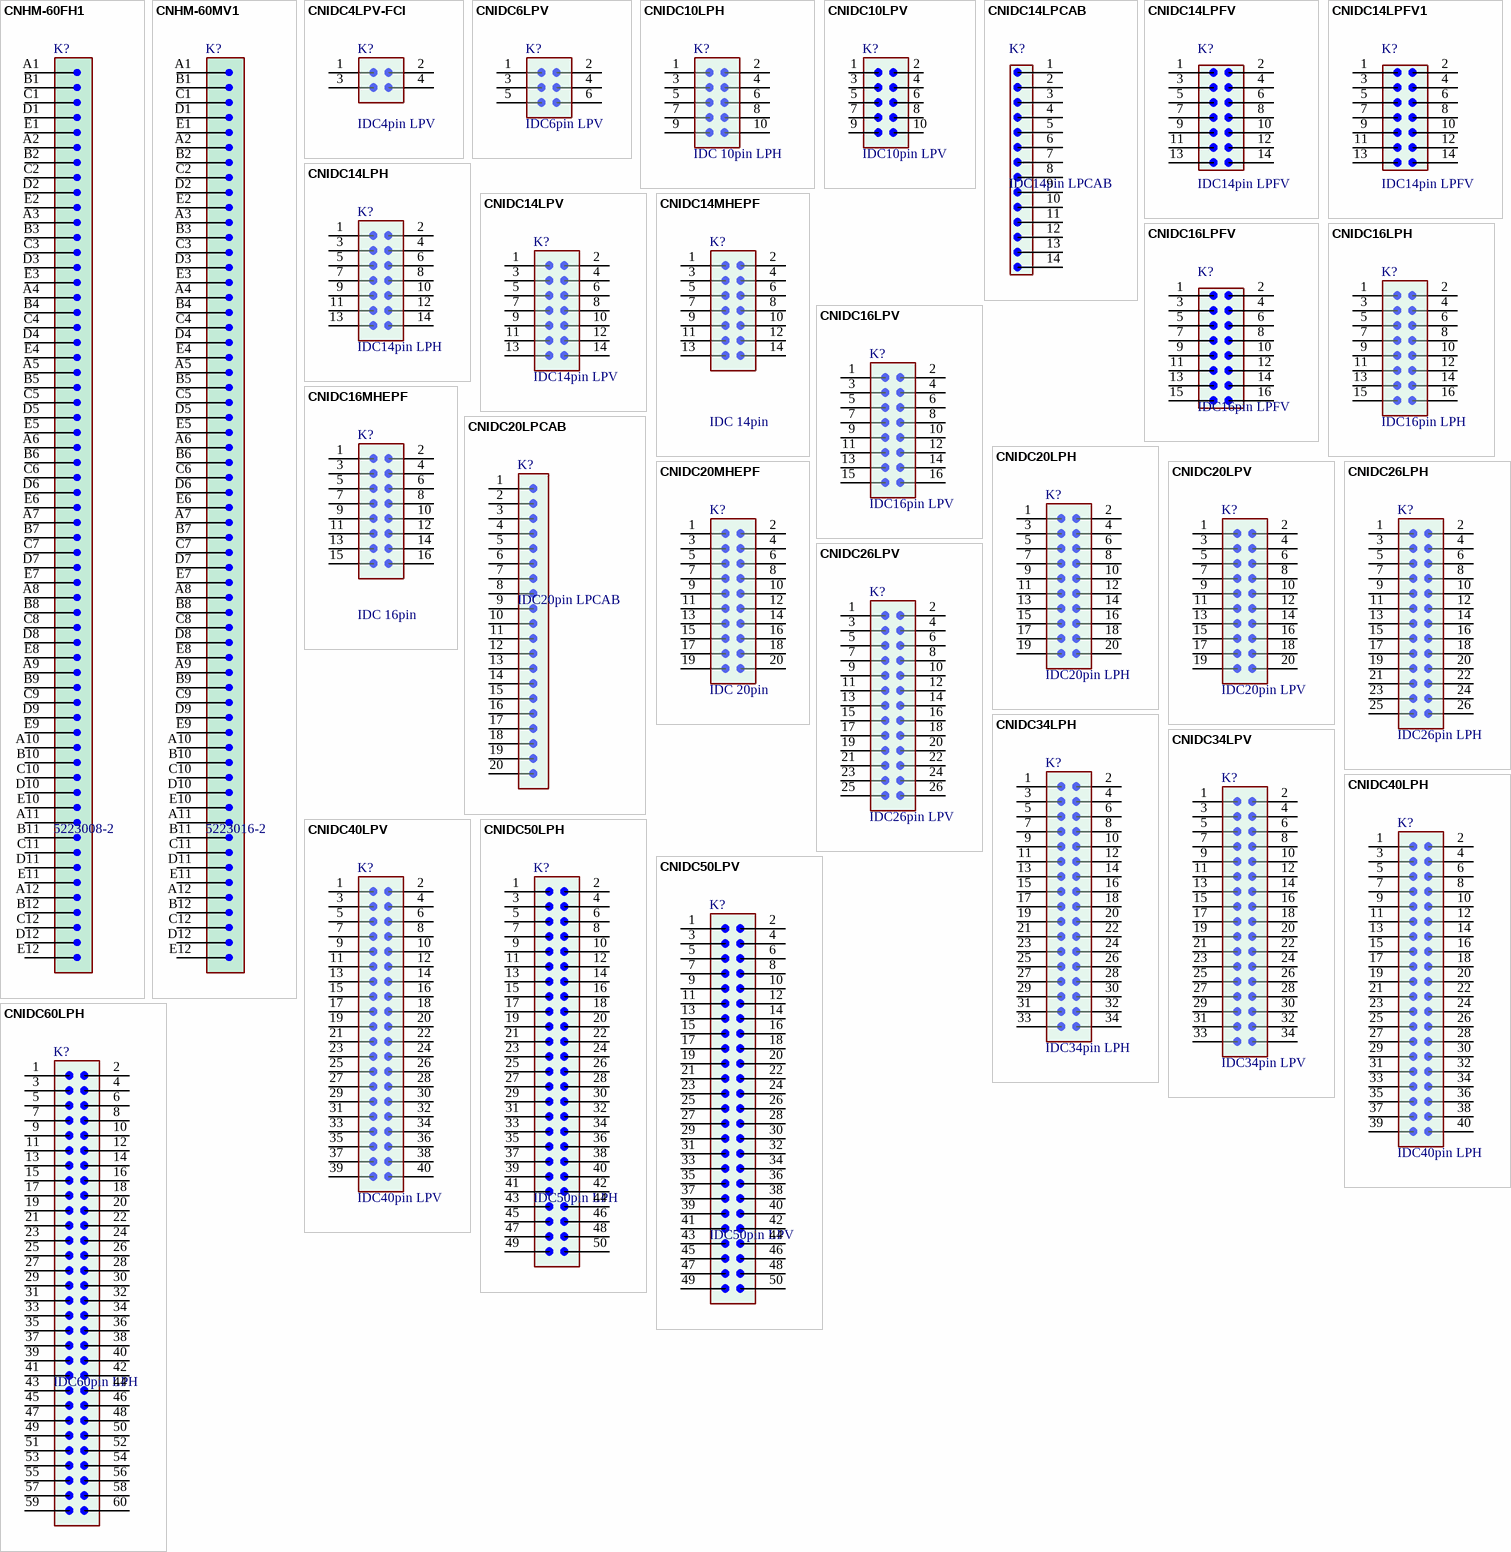
[diagram p9: symbols CNHM-60FH1 to CNIDC60LPH]

## CNHM-60FH1
designator K?, comment 5223008-2
HM female horizontal 60 pin unshielded 2mm; Manufacturer: Tyco, Farnell; Manufacturer No: 5223008-2, 1284318; Sort: 610; Tech: PFIT; Package: Conn 60pin PressFit; Price: 2.6
signal-integrity model Model Name (Model Description)
footprint CNHM60FH1 (HM connector R 2mm 60pin horizontal female 5223008-2)
pins: A1, A2, A3, A4, A5, A6, A7, A8, A9, A10, A11, A12, B1, B2, B3, B4, B5, B6, B7, B8, B9, B10, B11, B12, C1, C2, C3, C4, C5, C6, C7, C8, C9, C10, C11, C12, D1, D2, D3, D4, D5, D6, D7, D8, D9, D10, D11, D12, E1, E2, E3, E4, E5, E6, E7, E8, E9, E10, E11, E12

## CNHM-60MV1
designator K?, comment 5223016-2
HM male vertical 60 pin unshielded 2mm; Manufacturer: Tyco, Farnell; Manufacturer No: 5223016-2, 1284315; Sort: 610; Tech: PFIT; Package: Conn. 60 pin PressFit; Price: 4.5
signal-integrity model Model Name (Model Description)
footprint CNHM60MV1 (HM connector R 2mm 60pin vertical male 5223016-2)
pins: A1, A2, A3, A4, A5, A6, A7, A8, A9, A10, A11, A12, B1, B2, B3, B4, B5, B6, B7, B8, B9, B10, B11, B12, C1, C2, C3, C4, C5, C6, C7, C8, C9, C10, C11, C12, D1, D2, D3, D4, D5, D6, D7, D8, D9, D10, D11, D12, E1, E2, E3, E4, E5, E6, E7, E8, E9, E10, E11, E12

## CNIDC4LPV-FCI
designator K?, comment IDC4pin LPV
Connector IDC 4 pin low profile vertical; Manufacturer No: 75869-130LF, 649-75869-130LF; Manufacturer: FCI, Mouser; Sort: 610; Tech: THDW; Package: CN IDC4LPV; Price: 0,3
signal-integrity model Model Name (Model Description)
footprint CNIDC4LPV-FCI (Connector IDC Low Profile Male Header, Thru-Hole; 4 pin; Vertical; R2.54 mm; Body 17.78 x 9.2 x 9.45 mm (LxWxH))
pins: 1, 2, 3, 4
1 alternate drawing of the same symbol

## CNIDC6LPV
designator K?, comment IDC6pin LPV
Connector IDC 6 pin low profile vertical; Sort: 610; Tech: THDW; Price: 0
signal-integrity model Model Name (Model Description)
footprint CNIDC6LPV (Connector IDC Low Profile Male Header, Thru-Hole; 6 pin; Vertical; R2.54 mm; Body 17.78 x 9.2 x 9.45 mm (LxWxH))
pins: 1, 2, 3, 4, 5, 6
1 alternate drawing of the same symbol

## CNIDC10LPH
designator K?, comment IDC 10pin LPH
Connector IDC 10 pin low profile horizontal; Sort: 610; Tech: THDW; Package: CN 10pin LP Horiz; Price: 0
signal-integrity model Model Name (Model Description)
footprint CNIDC10LPH (Connector IDC Low Profile Male Header, Thru-Hole; 10 pin; Horizontal; R2.54 mm; Body 20.32 x 9.45 x 9.2 mm (LxWxH))
pins: 1, 2, 3, 4, 5, 6, 7, 8, 9, 10
1 alternate drawing of the same symbol

## CNIDC10LPV
designator K?, comment IDC10pin LPV
Connector IDC 10 pin low profile vertical; Manufacturer No: 302-S101; Manufacturer: On Shore Tech.; Sort: 610; Tech: THDW; Comment2: IDC 10pin; Package: IDC 10pin; Price: 0.26; Supplier: Digi-Key; Supplier No: ED1543-ND
signal-integrity model Model Name (Model Description)
footprint CN_IDC10LPV (Connector IDC Low Profile Male Header, Thru-Hole; 10 pin; Vertical; R2.54 mm; Body 20.32 x 9.2 x 9.45 mm (LxWxH))
pins: 1, 2, 3, 4, 5, 6, 7, 8, 9, 10
1 alternate drawing of the same symbol

## CNIDC14LPCAB
designator K?, comment IDC14pin LPCAB
Cable Connector IDC 14 pin low profile female; Manufacturer: Taitek; Manufacturer No: FC-14ASNAR; Comment2: 1A 500V; Sort: 610; Price: 0
signal-integrity model Model Name (Model Description)
pins: 1, 2, 3, 4, 5, 6, 7, 8, 9, 10, 11, 12, 13, 14

## CNIDC14LPFV
designator K?, comment IDC14pin LPFV
Connector IDC 14 pin low profile vertical female; Manufacturer: Taitek; Manufacturer No: FHD-14SGN3R; Comment2: 3A; Sort: 610; Tech: THDW; Price: 0
signal-integrity model Model Name (Model Description)
footprint CNIDC14LPFV (Connector IDC Low Profile Female Header, Thru-Hole; 16 pin female; Vertical; R2.54 mm; Body 17.78 x 5 x 7.1 mm (LxWxH))
pins: 1, 2, 3, 4, 5, 6, 7, 8, 9, 10, 11, 12, 13, 14
1 alternate drawing of the same symbol

## CNIDC14LPFV1
designator K?, comment IDC14pin LPFV
Connector IDC 14 pin low profile vertical female; Manufacturer: SAMTEC, DigiKey; Manufacturer No: BCS-107-L-D-TE, SAM1008-07-ND; Comment2: 3A; Sort: 610; Tech: THDW; Price: 0
signal-integrity model Model Name (Model Description)
footprint CNIDC14LPFV1 (Connector IDC Low Profile Female Header, Thru-Hole; 14 pin female; Vertical; R2.54 mm; Body 17.78 x 5 .08x 7.37 mm (LxWxH))
pins: 1, 2, 3, 4, 5, 6, 7, 8, 9, 10, 11, 12, 13, 14
1 alternate drawing of the same symbol

## CNIDC14LPH
designator K?, comment IDC14pin LPH
Connector IDC 14 pin low profile horizontal; Sort: 610; Tech: THDW; Price: 0
signal-integrity model Model Name (Model Description)
footprint CNIDC14LPH (Connector IDC Low Profile Male Header, Thru-Hole; 14 pin; Horizontal; R2.54 mm; Body 25.4 x 9.45 x 9.2 mm (LxWxH))
pins: 1, 2, 3, 4, 5, 6, 7, 8, 9, 10, 11, 12, 13, 14
1 alternate drawing of the same symbol

## CNIDC14LPV
designator K?, comment IDC14pin LPV
Connector IDC 14 pin low profile vertical; Sort: 610; Tech: THDW; Price: 0
signal-integrity model Model Name (Model Description)
footprint CNIDC14LPV (Connector IDC Low Profile Male Header, Thru-Hole; 14 pin; Vertical; R2.54 mm; Body 25.4 x 9.2 x 9.45 mm (LxWxH))
pins: 1, 2, 3, 4, 5, 6, 7, 8, 9, 10, 11, 12, 13, 14
1 alternate drawing of the same symbol

## CNIDC14MHEPF
designator K?, comment IDC 14pin
Male Header 14pin R2.54mm Ejectors+Press fit; Manufacturer: Taitek; Manufacturer No: IDH-14SP1GN1R; Comment2: InR 3GR CnR 30mR 2A; Sort: 610; Tech: THDW; Package: IDC 20pin; Price: 0
signal-integrity model Model Name (Model Description)
footprint CNIDC14MHEPF (Male header 2x7 pin R2.54mm press fit + eject)
pins: 1, 2, 3, 4, 5, 6, 7, 8, 9, 10, 11, 12, 13, 14
1 alternate drawing of the same symbol

## CNIDC16LPFV
designator K?, comment IDC16pin LPFV
Connector IDC 16 pin low profile vertical female; Manufacturer: Taitek; Manufacturer No: FHD-16SGN3R; Comment2: 3A; Sort: 610; Tech: THDW; Price: 0
signal-integrity model Model Name (Model Description)
footprint CNIDC16LPFV (Connector IDC Low Profile Female Header, Thru-Hole; 16 pin female; Vertical; R2.54 mm; Body 20.32 x 5 x 7.1 mm (LxWxH))
pins: 1, 2, 3, 4, 5, 6, 7, 8, 9, 10, 11, 12, 13, 14, 15, 16
1 alternate drawing of the same symbol

## CNIDC16LPH
designator K?, comment IDC16pin LPH
Connector IDC 16 pin low profile horizontal; Sort: 610; Tech: THDW; Price: 0
signal-integrity model Model Name (Model Description)
footprint CNIDC16LPH (Connector IDC Low Profile Male Header, Thru-Hole; 16 pin; Horizontal; R2.54 mm; Body 27.94 x 9.45 x 9.2 mm (LxWxH))
pins: 1, 2, 3, 4, 5, 6, 7, 8, 9, 10, 11, 12, 13, 14, 15, 16
1 alternate drawing of the same symbol

## CNIDC16LPV
designator K?, comment IDC16pin LPV
Connector IDC 16 pin low profile vertical; Sort: 610; Tech: THDW; Price: 0
signal-integrity model Model Name (Model Description)
footprint CNIDC16LPV (Connector IDC Low Profile Male Header, Thru-Hole; 16 pin; Vertical; R2.54 mm; Body 27.9 x 9.2 x 9.45 mm (LxWxH))
pins: 1, 2, 3, 4, 5, 6, 7, 8, 9, 10, 11, 12, 13, 14, 15, 16
1 alternate drawing of the same symbol

## CNIDC16MHEPF
designator K?, comment IDC 16pin
Male Header 16pin R2.54mm Ejectors+Press fit; Manufacturer: Taitek; Manufacturer No: IDH-16SP1GN1R; Comment2: InR 3GR CnR 30mR 2A; Sort: 610; Tech: THDW; Package: IDC 16pin; Price: 0
signal-integrity model Model Name (Model Description)
footprint CNIDC16MHEPF (Male header 2x8 pin R2.54mm press fit + eject)
pins: 1, 2, 3, 4, 5, 6, 7, 8, 9, 10, 11, 12, 13, 14, 15, 16
1 alternate drawing of the same symbol

## CNIDC20LPCAB
designator K?, comment IDC20pin LPCAB
Cable Connector IDC 20 pin low profile female; Manufacturer: Taitek; Manufacturer No: FC-20ASNAR; Comment2: 1A 500V; Sort: 610; Price: 0
signal-integrity model Model Name (Model Description)
pins: 1, 2, 3, 4, 5, 6, 7, 8, 9, 10, 11, 12, 13, 14, 15, 16, 17, 18, 19, 20

## CNIDC20LPH
designator K?, comment IDC20pin LPH
Connector IDC 20 pin low profile horizontal; Sort: 610; Tech: THDW; Price: 0
signal-integrity model Model Name (Model Description)
footprint CNIDC20LPH (Connector IDC Low Profile Male Header, Thru-Hole; 20 pin; Horizontal; R2.54 mm; Body 27.94 x 9.45 x 9.2 mm (LxWxH))
pins: 1, 2, 3, 4, 5, 6, 7, 8, 9, 10, 11, 12, 13, 14, 15, 16, 17, 18, 19, 20
1 alternate drawing of the same symbol

## CNIDC20LPV
designator K?, comment IDC20pin LPV
Connector IDC 20 pin low profile vertical; Sort: 610; Tech: THDW; Price: 0
signal-integrity model Model Name (Model Description)
footprint CNIDC20LPV (Connector IDC Low Profile Male Header, Thru-Hole; 20 pin; Vertical; R2.54 mm; Body 33.0 x 9.2 x 9.45 mm (LxWxH))
pins: 1, 2, 3, 4, 5, 6, 7, 8, 9, 10, 11, 12, 13, 14, 15, 16, 17, 18, 19, 20
1 alternate drawing of the same symbol

## CNIDC20MHEPF
designator K?, comment IDC 20pin
Male Header 20pin R2.54mm Ejectors+Press fit; Manufacturer: Taitek; Manufacturer No: IDH-20SP1GN1R; Comment2: InR 3GR CnR 30mR 2A; Sort: 610; Tech: THDW; Package: IDC 20pin; Price: 0
signal-integrity model Model Name (Model Description)
footprint CNIDC20MHEPF (Male header 2x10 pin R2.54mm press fit + eject)
pins: 1, 2, 3, 4, 5, 6, 7, 8, 9, 10, 11, 12, 13, 14, 15, 16, 17, 18, 19, 20
1 alternate drawing of the same symbol

## CNIDC26LPH
designator K?, comment IDC26pin LPH
Connector IDC 26 pin low profile horizontal; Sort: 610; Tech: THDW; Price: 0
signal-integrity model Model Name (Model Description)
footprint CNIDC26LPH (Connector IDC Low Profile Male Header, Thru-Hole; 26 pin; Horizontal; R2.54 mm; Body 27.94 x 9.45 x 9.2 mm (LxWxH))
pins: 1, 2, 3, 4, 5, 6, 7, 8, 9, 10, 11, 12, 13, 14, 15, 16, 17, 18, 19, 20, 21, 22, 23, 24, 25, 26
1 alternate drawing of the same symbol

## CNIDC26LPV
designator K?, comment IDC26pin LPV
Connector IDC 26 pin low profile vertical; Sort: 610; Tech: THDW; Price: 0
signal-integrity model Model Name (Model Description)
footprint CNIDC26LPV (Connector IDC Low Profile Male Header, Thru-Hole; 20 pin; Vertical; R2.54 mm; Body 40.6 x 9.2 x 9.45 mm (LxWxH))
pins: 1, 2, 3, 4, 5, 6, 7, 8, 9, 10, 11, 12, 13, 14, 15, 16, 17, 18, 19, 20, 21, 22, 23, 24, 25, 26
1 alternate drawing of the same symbol

## CNIDC34LPH
designator K?, comment IDC34pin LPH
Connector IDC 34 pin low profile horizontal; Sort: 610; Tech: THDW; Price: 0
signal-integrity model Model Name (Model Description)
footprint CNIDC34LPH (Connector IDC Low Profile Male Header, Thru-Hole; 34 pin; Hertical; R2.54 mm; Body 50.8 x 9.2 x 8.6 mm (LxWxH))
pins: 1, 2, 3, 4, 5, 6, 7, 8, 9, 10, 11, 12, 13, 14, 15, 16, 17, 18, 19, 20, 21, 22, 23, 24, 25, 26, 27, 28, 29, 30, 31, 32, 33, 34
1 alternate drawing of the same symbol

## CNIDC34LPV
designator K?, comment IDC34pin LPV
Connector IDC 34 pin low profile vertical; Sort: 610; Tech: THDW; Price: 0
signal-integrity model Model Name (Model Description)
footprint CNIDC34LPV (Connector IDC Low Profile Male Header, Thru-Hole; 34 pin; Vertical; R2.54 mm; Body 50.8 x 9.2 x 9.45 mm (LxWxH))
pins: 1, 2, 3, 4, 5, 6, 7, 8, 9, 10, 11, 12, 13, 14, 15, 16, 17, 18, 19, 20, 21, 22, 23, 24, 25, 26, 27, 28, 29, 30, 31, 32, 33, 34
1 alternate drawing of the same symbol

## CNIDC40LPH
designator K?, comment IDC40pin LPH
Connector IDC 40 pin low profile horizontal; Sort: 610; Tech: THDW; Price: 0
signal-integrity model Model Name (Model Description)
footprint CNIDC40LPH (Connector IDC Low Profile Male Header, Thru-Hole; 40 pin; Hertical; R2.54 mm; Body 50.8 x 9.2 x 8.6 mm (LxWxH))
pins: 1, 2, 3, 4, 5, 6, 7, 8, 9, 10, 11, 12, 13, 14, 15, 16, 17, 18, 19, 20, 21, 22, 23, 24, 25, 26, 27, 28, 29, 30, 31, 32, 33, 34, 35, 36, 37, 38, 39, 40
1 alternate drawing of the same symbol

## CNIDC40LPV
designator K?, comment IDC40pin LPV
Connector IDC 40 pin low profile vertical; Sort: 610; Tech: THDW; Price: 0
signal-integrity model Model Name (Model Description)
footprint CNIDC40LPV (Connector IDC Low Profile Male Header, Thru-Hole; 40 pin; Vertical; R2.54 mm; Body 58.4 x 9.2 x 9.45 mm (LxWxH))
pins: 1, 2, 3, 4, 5, 6, 7, 8, 9, 10, 11, 12, 13, 14, 15, 16, 17, 18, 19, 20, 21, 22, 23, 24, 25, 26, 27, 28, 29, 30, 31, 32, 33, 34, 35, 36, 37, 38, 39, 40
1 alternate drawing of the same symbol

## CNIDC50LPH
designator K?, comment IDC50pin LPH
Connector IDC 50 pin low profile horizontal; Sort: 610; Tech: THDW; Price: 0
signal-integrity model Model Name (Model Description)
footprint CNIDC50LPH (Connector IDC Low Profile Male Header, Thru-Hole; 50 pin; Hertical; R2.54 mm; Body 50.8 x 9.2 x 8.6 mm (LxWxH))
pins: 1, 2, 3, 4, 5, 6, 7, 8, 9, 10, 11, 12, 13, 14, 15, 16, 17, 18, 19, 20, 21, 22, 23, 24, 25, 26, 27, 28, 29, 30, 31, 32, 33, 34, 35, 36, 37, 38, 39, 40, 41, 42, 43, 44, 45, 46, 47, 48, 49, 50

## CNIDC50LPV
designator K?, comment IDC50pin LPV
Connector IDC 50 pin low profile vertical; Sort: 610; Tech: THDW; Price: 0
signal-integrity model Model Name (Model Description)
footprint CNIDC50LPV (Connector IDC Low Profile Male Header, Thru-Hole; 60 pin; Vertical; R2.54 mm; Body 71.1 x 9.2 x 9.45 mm (LxWxH))
pins: 1, 2, 3, 4, 5, 6, 7, 8, 9, 10, 11, 12, 13, 14, 15, 16, 17, 18, 19, 20, 21, 22, 23, 24, 25, 26, 27, 28, 29, 30, 31, 32, 33, 34, 35, 36, 37, 38, 39, 40, 41, 42, 43, 44, 45, 46, 47, 48, 49, 50

## CNIDC60LPH
designator K?, comment IDC60pin LPH
Connector IDC 60 pin low profile horizontal; Sort: 610; Tech: THDW; Price: 0
signal-integrity model Model Name (Model Description)
footprint CNIDC60LPH (Connector IDC Low Profile Male Header, Thru-Hole; 60 pin; Hertical; R2.54 mm; Body 50.8 x 9.2 x 8.6 mm (LxWxH))
pins: 1, 2, 3, 4, 5, 6, 7, 8, 9, 10, 11, 12, 13, 14, 15, 16, 17, 18, 19, 20, 21, 22, 23, 24, 25, 26, 27, 28, 29, 30, 31, 32, 33, 34, 35, 36, 37, 38, 39, 40, 41, 42, 43, 44, 45, 46, 47, 48, 49, 50, 51, 52, 53, 54, 55, 56, 57, 58, 59, 60

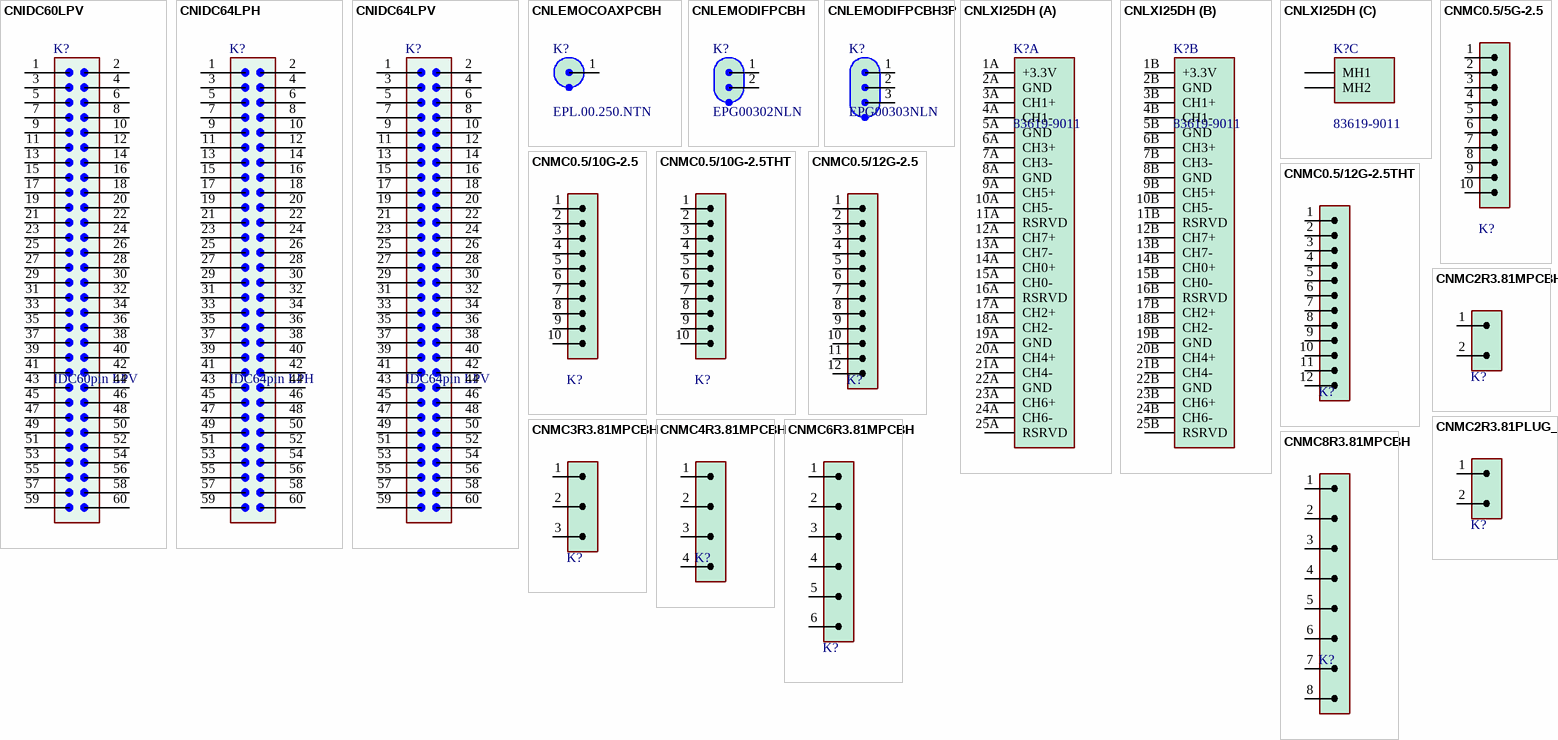
[diagram p10: symbols CNIDC60LPV to CNMC8R3.81MPCBH]

## CNIDC60LPV
designator K?, comment IDC60pin LPV
Connector IDC 60 pin low profile vertical; Sort: 610; Tech: THDW; Price: 0
signal-integrity model Model Name (Model Description)
footprint CNIDC60LPV (Connector IDC Low Profile Male Header, Thru-Hole; 60 pin; Vertical; R2.54 mm; Body 83.8 x 9.2 x 9.45 mm (LxWxH))
pins: 1, 2, 3, 4, 5, 6, 7, 8, 9, 10, 11, 12, 13, 14, 15, 16, 17, 18, 19, 20, 21, 22, 23, 24, 25, 26, 27, 28, 29, 30, 31, 32, 33, 34, 35, 36, 37, 38, 39, 40, 41, 42, 43, 44, 45, 46, 47, 48, 49, 50, 51, 52, 53, 54, 55, 56, 57, 58, 59, 60

## CNIDC64LPH
designator K?, comment IDC64pin LPH
Connector IDC 64 pin low profile horizontal; Sort: 610; Tech: THDW; Price: 0
signal-integrity model Model Name (Model Description)
footprint CNIDC64LPH (Connector IDC Low Profile Male Header, Thru-Hole; 64 pin; Hertical; R2.54 mm; Body 50.8 x 9.2 x 8.6 mm (LxWxH))
pins: 1, 2, 3, 4, 5, 6, 7, 8, 9, 10, 11, 12, 13, 14, 15, 16, 17, 18, 19, 20, 21, 22, 23, 24, 25, 26, 27, 28, 29, 30, 31, 32, 33, 34, 35, 36, 37, 38, 39, 40, 41, 42, 43, 44, 45, 46, 47, 48, 49, 50, 51, 52, 53, 54, 55, 56, 57, 58, 59, 60

## CNIDC64LPV
designator K?, comment IDC64pin LPV
Connector IDC 64 pin low profile vertical; Sort: 610; Tech: THDW; Price: 0
signal-integrity model Model Name (Model Description)
footprint CNIDC64LPV (Connector IDC Low Profile Male Header, Thru-Hole; 64pin; Vertical; R2.54 mm; Body 83.8 x 9.2 x 9.45 mm (LxWxH))
pins: 1, 2, 3, 4, 5, 6, 7, 8, 9, 10, 11, 12, 13, 14, 15, 16, 17, 18, 19, 20, 21, 22, 23, 24, 25, 26, 27, 28, 29, 30, 31, 32, 33, 34, 35, 36, 37, 38, 39, 40, 41, 42, 43, 44, 45, 46, 47, 48, 49, 50, 51, 52, 53, 54, 55, 56, 57, 58, 59, 60

## CNLEMOCOAXPCBH
designator K?, comment EPL.00.250.NTN
LEMO RF 1pin connector PCB horizontal; Sort: 610; Tech: THDW; Manufacturer No: EPL.00.250.NTN; Package: CN LEMO PCB Horiz; Manufacturer: Lemo; Price: 12
signal-integrity model Model Name (Model Description)
footprint EPL.00.250.NTN (Lemo 1 pin PCB horizontal)
pins: 1, 3, 4, 5, 6

## CNLEMODIFPCBH
designator K?, comment EPG00302NLN
LEMO RF 2 pin connector PCB horizontal; Manufacturer No: EPG.00.302.NLN; Sort: 610; Tech: THDW; Package: CN LEMO PCB Horiz; Manufacturer: Lemo; Price: 0
signal-integrity model Model Name (Model Description)
footprint EPG.00.302.NLN (Lemo 2 pin PCB horizontal)
pins: 1, 2, 3, 4, 5, 6

## CNLEMODIFPCBH3P
designator K?, comment EPG00303NLN
LEMO RF 3 pin connector PCB horizontal; Manufacturer No: EPG.00.303.NLN; Sort: 610; Tech: THDW; Package: CN LEMO PCB Horiz; Manufacturer: Lemo; Price: 0
signal-integrity model Model Name (Model Description)
footprint EPG.00.303.NLN (Lemo 3 pin PCB horizontal)
pins: 1, 2, 3, 4, 5, 6, 7

## CNLXI25DH
designator K?, comment 83619-9011
Connector LXI Trigger 25pin micro-D dual connector; Manufacturer: Molex; Sort: 610; Tech: THDW; Manufacturer No: 83619-9011; Price: 0
signal-integrity model Model Name (Model Description)
footprint CNLXI25DH (Connector LXI Horizontal, THDM; 25 pin; R1.27 mm; Body 30.1 x 20.13 x 18.67 mm (LxWxH))
part A pins: 1A +3.3V (power), 2A GND (power), 3A CH1+, 4A CH1-, 5A GND (power), 6A CH3+, 7A CH3-, 8A GND (power), 9A CH5+, 10A CH5-, 11A RSRVD, 12A CH7+, 13A CH7-, 14A CH0+, 15A CH0-, 16A RSRVD, 17A CH2+, 18A CH2-, 19A GND (power), 20A CH4+, 21A CH4-, 22A GND (power), 23A CH6+, 24A CH6-, 25A RSRVD
part B pins: 1B +3.3V (power), 2B GND (power), 3B CH1+, 4B CH1-, 5B GND (power), 6B CH3+, 7B CH3-, 8B GND (power), 9B CH5+, 10B CH5-, 11B RSRVD, 12B CH7+, 13B CH7-, 14B CH0+, 15B CH0-, 16B RSRVD, 17B CH2+, 18B CH2-, 19B GND (power), 20B CH4+, 21B CH4-, 22B GND (power), 23B CH6+, 24B CH6-, 25B RSRVD
part C pins: MH1, MH2

## CNMC0.5/5G-2.5
designator K?, comment MC0.5/5-G-2.5  (value not drawn)
Combicon header 9 pin horiz closed R3.81mm; Manufacturer: PhoenixContact, Farnell; Sort: 610; Tech: THDW; Price: 0
footprint MC0.5/5G-2.5 (Combicon conn. 5pin R2.5mm)
pins: 1, 2, 3, 4, 5, 6, 7, 8, 9, 10

## CNMC0.5/10G-2.5
designator K?, comment MC0.5/10-G-2.5  (value not drawn)
Combicon header 10 pin horiz closed R2.5mm; Manufacturer: PhoenixContact, Farnell; Manufacturer No: 1881529,; Sort: 610; Tech: THDW; Package: CN MC05/10G; Price: 0
footprint MC0.5/10G-2.5 (Combicon conn. 10pin R2.5mm)
pins: 1, 2, 3, 4, 5, 6, 7, 8, 9, 10

## CNMC0.5/10G-2.5THT
designator K?, comment MC0.5/10-G-2.5 THT  (value not drawn)
Combicon header 10 pin horiz R2.5mm pin-in-paste; Manufacturer: PhoenixContact, Farnell; Manufacturer No: 1963502,; Sort: 610; Tech: SMDPP; Package: CN MC05/10G; Price: 0
footprint MC0.5/10G-2.5 (Combicon conn. 10pin R2.5mm)
pins: 1, 2, 3, 4, 5, 6, 7, 8, 9, 10

## CNMC0.5/12G-2.5
designator K?, comment MC0.5/12-G-2.5  (value not drawn)
Combicon header 12 pin horiz closed R2.5mm; Manufacturer: PhoenixContact, Farnell; Manufacturer No: 1881545,; Sort: 610; Tech: THDW; Package: CN MC05/12G; Price: 0
footprint MC0.5/12G-2.5 (Combicon conn. 12pin R2.5mm horiz.)
pins: 1, 2, 3, 4, 5, 6, 7, 8, 9, 10, 11, 12

## CNMC0.5/12G-2.5THT
designator K?, comment MC0.5/12-G-2.5 THT  (value not drawn)
Combicon header 12 pin horiz R2.5mm pin-in-paste; Manufacturer: PhoenixContact, Farnell; Manufacturer No: 1939316,; Sort: 610; Tech: SMDPP; Package: CN MC05/12G; Price: 0
footprint MC0.5/12G-2.5 (Combicon conn. 12pin R2.5mm horiz.)
pins: 1, 2, 3, 4, 5, 6, 7, 8, 9, 10, 11, 12

## CNMC2R3.81MPCBH
designator K?, comment MC1.5/2-G-3.81  (value not drawn)
Combicon header 3 pin horiz closed R3.81mm; Manufacturer: PhoenixContact, Farnell; Manufacturer No: 1803277, 3704725; Sort: 610; Tech: THDW; Price: 0
footprint MC1.5/2G-3.81 (COMBICON 2 POL HOR 3.81mm)
pins: 1, 2

## CNMC2R3.81PLUG_1
designator K?, comment MC1.5/2-ST-3.81  (value not drawn)  (net tie)
Combicon plug 2 pin vertical closed R3.81mm; Manufacturer: PhoenixContact; Manufacturer No: 1840366; Sort: 610; Tech: THDW; Price: 0
pins: 1, 2

## CNMC3R3.81MPCBH
designator K?, comment MC1.5/3-G-3.81  (value not drawn)
Combicon header 3 pin horiz closed R3.81mm; Manufacturer: PhoenixContact, Farnell; Manufacturer No: 1803280, 3704737; Sort: 610; Tech: THDW; Price: 0
footprint MC1.5/3G-3.81 (COMBICON 3POL HOR 3.81mm)
pins: 1, 2, 3

## CNMC4R3.81MPCBH
designator K?, comment MC1.5/4-G-3.81  (value not drawn)
Combicon header 4 pin horiz closed R3.81mm; Manufacturer: PhoenixContact, Farnell; Manufacturer No: 1803293, 3704749; Sort: 610; Tech: THDW; Price: 0
footprint MC1.5/4G-3.81 (COMBICON 4POL HOR 3.81mm)
pins: 1, 2, 3, 4

## CNMC6R3.81MPCBH
designator K?, comment MC1.5/6-G-3.81  (value not drawn)
Combicon header 6 pin horiz closed R3.81mm; Manufacturer: PhoenixContact, Farnell; Manufacturer No: 1803316, 3704762; Sort: 610; Tech: THDW; Price: 0
footprint MC1.5/6G-3.81 (COMBICON 6POL HOR 3.81mm)
pins: 1, 2, 3, 4, 5, 6

## CNMC8R3.81MPCBH
designator K?, comment MC1.5/8-G-3.81  (value not drawn)
Combicon header 8 pin horiz closed R3.81mm; Manufacturer: PhoenixContact, Farnell; Manufacturer No: 1803332, 3704774; Sort: 610; Tech: THDW; Price: 0
footprint MC1.5/8G-3.81 (COMBICON 8POL HOR 3.81mm)
pins: 1, 2, 3, 4, 5, 6, 7, 8

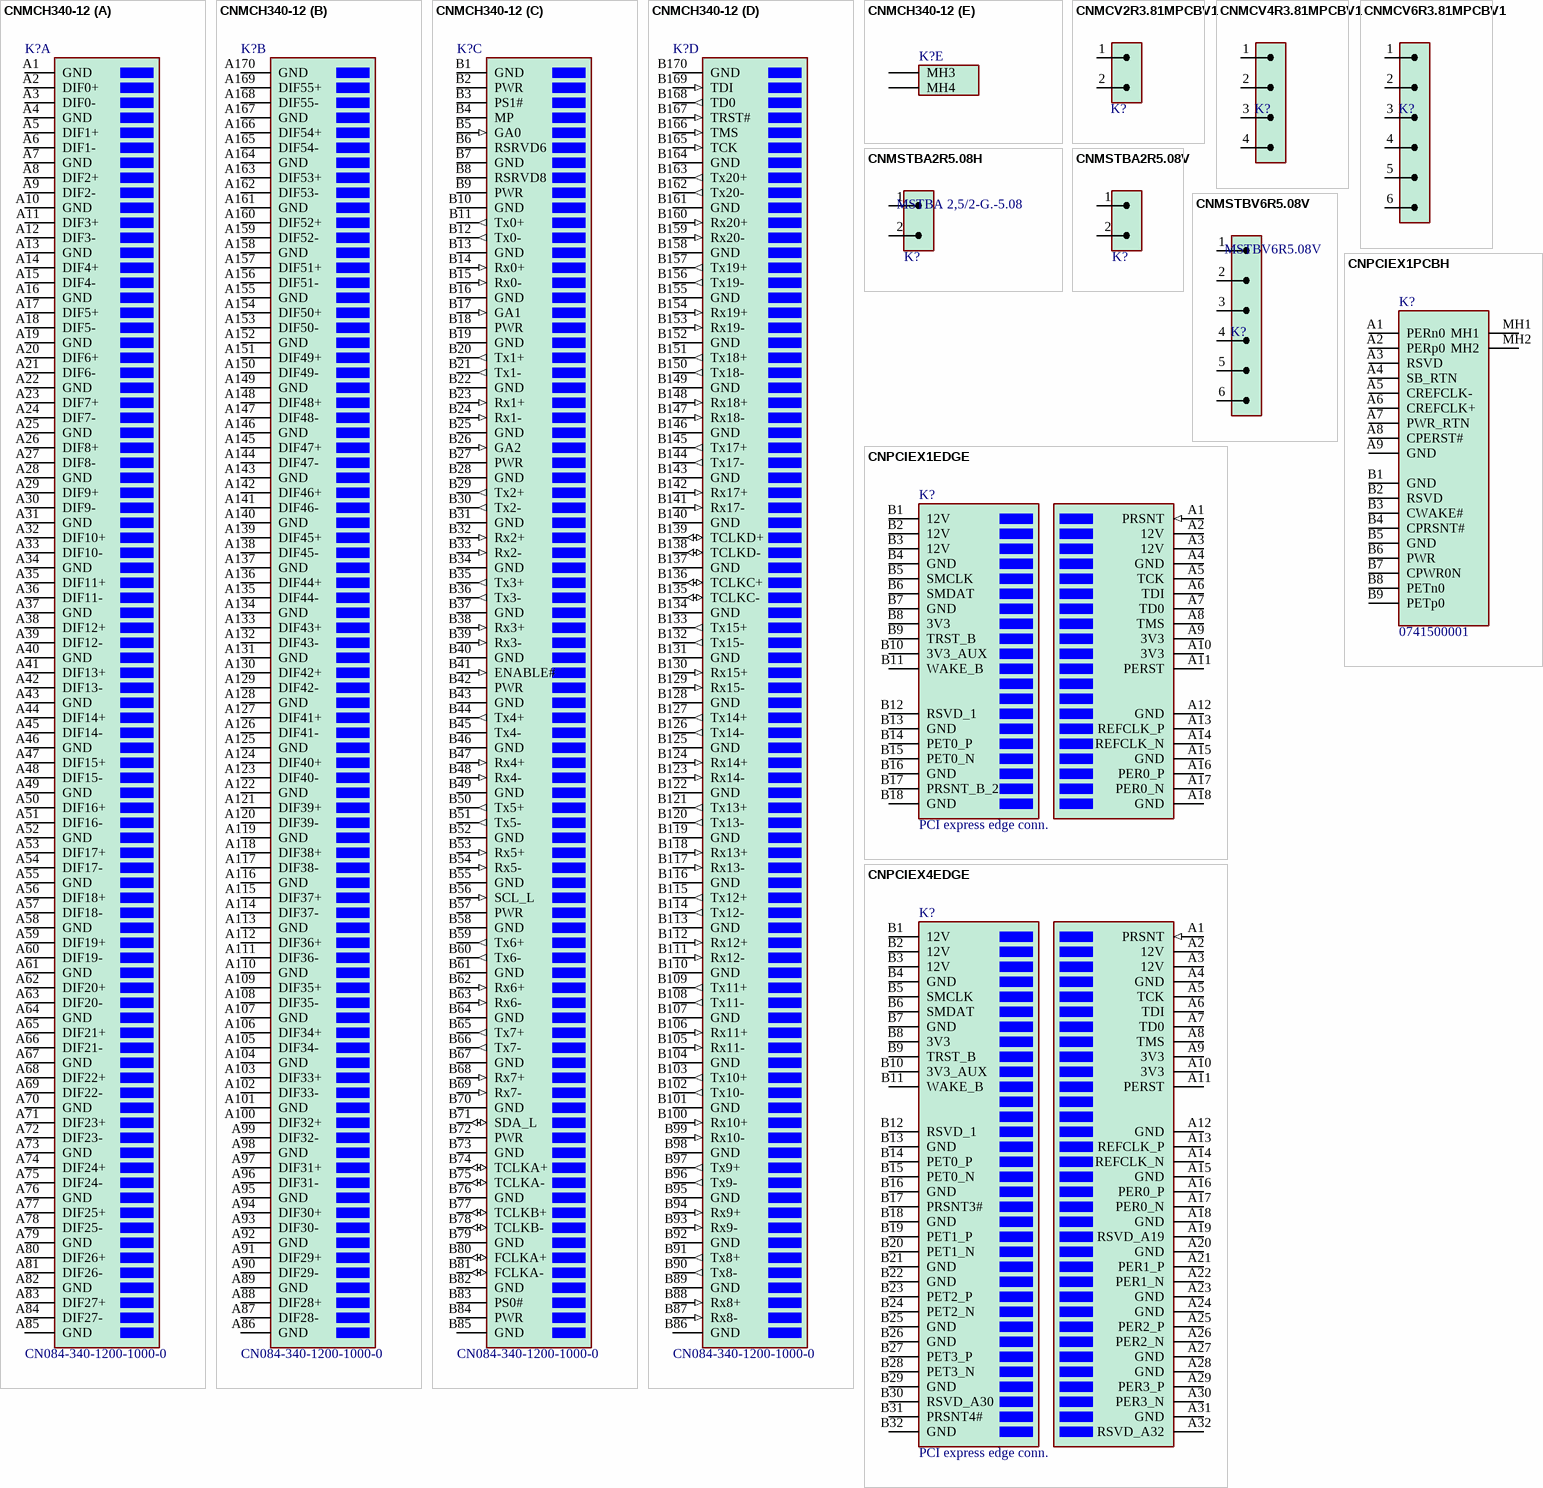
[diagram p11: symbols CNMCH340-12 to CNPCIEX4EDGE]